# Altium integrated library Integrated_Library.IntLib: 177 symbols (part 1 of 2)
Pins are listed as number, name and electrical type; pins without a type are passive.

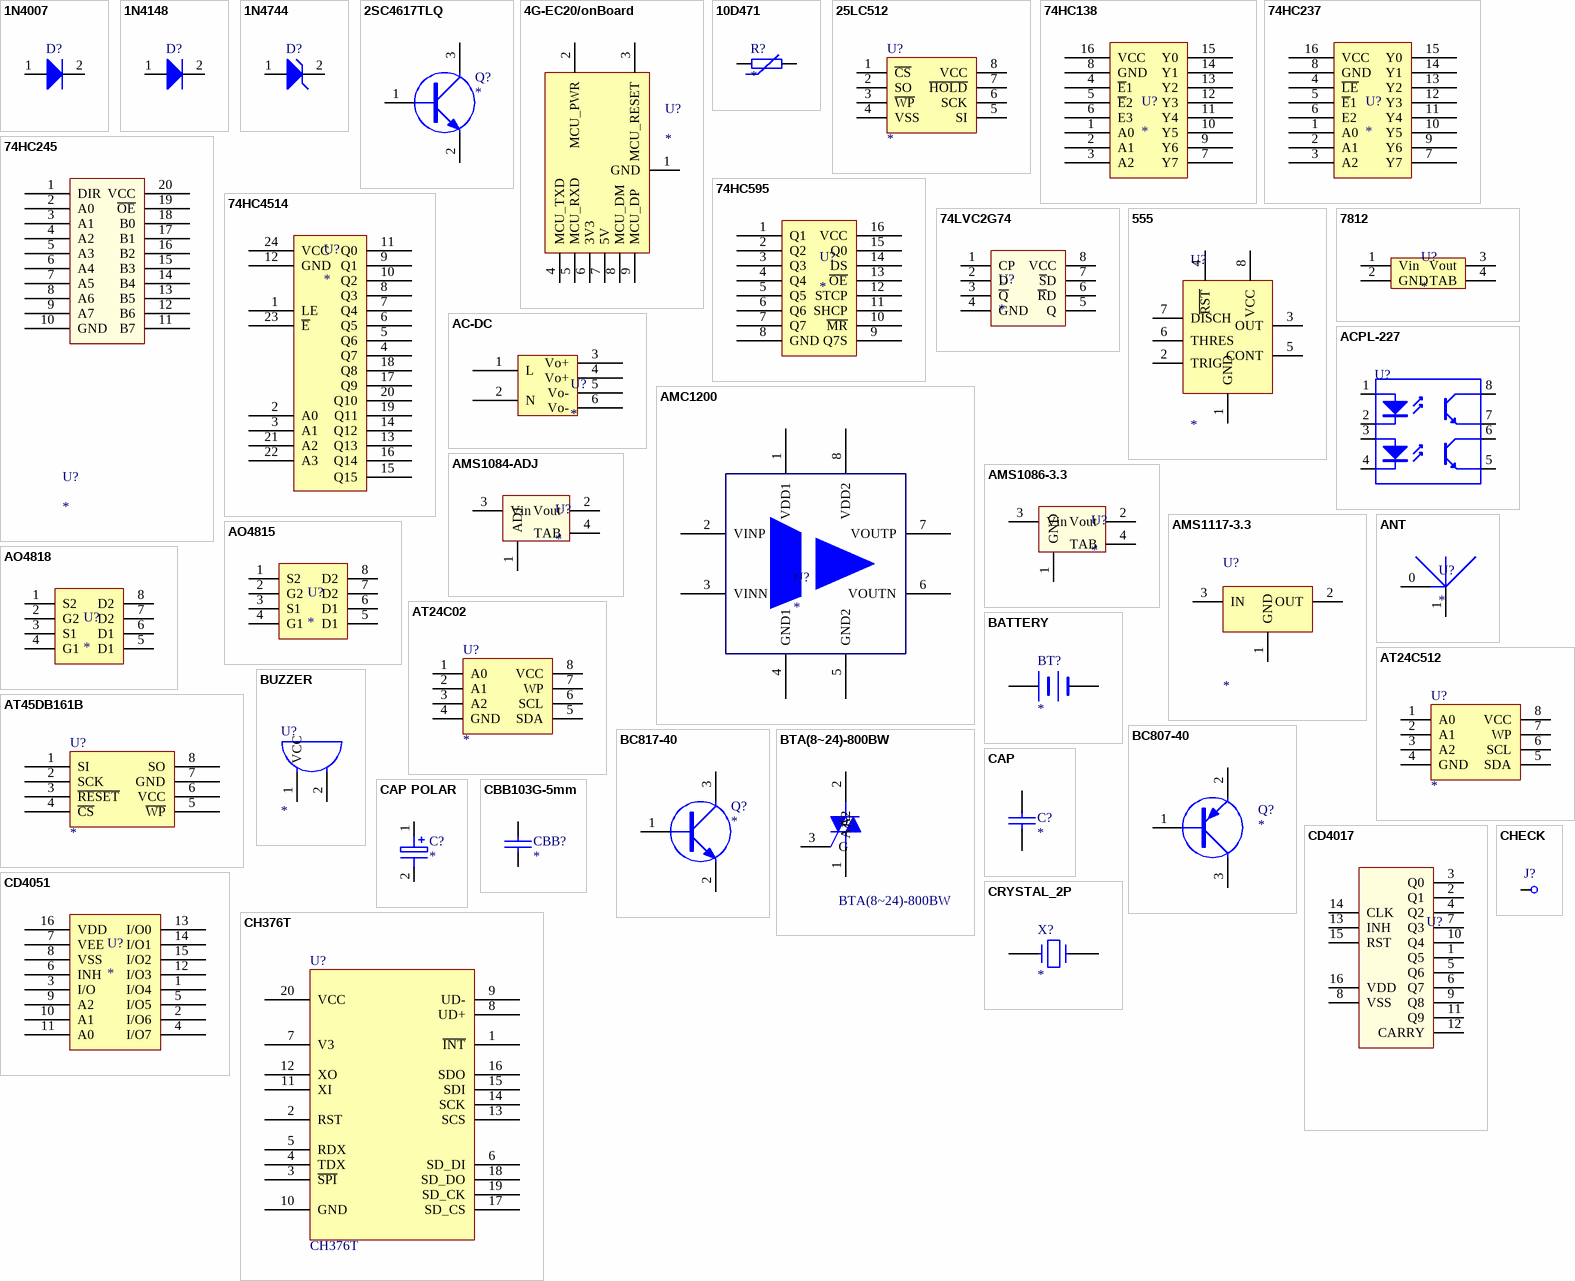
[diagram p0: symbols 1N4007 to CRYSTAL_2P]

## 1N4007
designator D?
整流二极管
footprint 10A10
footprint SMA/DO214AC (二极管)
footprint SMC/DO214AB
footprint SMB/DO214AA
pins: 1 A, 2 K

## 1N4148
designator D?
高速开关二极管
footprint LL34 (玻璃二极管封装)
footprint 1206_D (二极管)
footprint LL34_2P
footprint SOD-323_L1.8-W1.3-LS2.5-RD
footprint SOD-123_L2.8-W1.8-LS3.7-RD
footprint SOD-123FL
pins: 1 A, 2 K

## 1N4744
designator D?
15V/1W稳压二极管; Published: 8-Jun-2000; LatestRevisionDate: 17-Jul-2002; LatestRevisionNote: Re-released for DXP Platform.; PackageReference: DIODE-0.7; Publisher: Altium Limited
footprint LL41 (玻璃二极管封装)
footprint 1206_D (二极管)
footprint SMA/DO214AC (二极管)
footprint LL34_2P
pins: 1, 2 K

## 2SC4617TLQ
designator Q?
NPN三极管
footprint SOT-523
pins: 1, 2, 3

## 4G-EC20/onBoard
designator U?
移远板载4G
footprint 4G-EC20/onBoard
footprint 4g_ec20/onboard2 (插件弯头天线/micro sim翻盖式)
pins: 1 GND, 2 MCU_PWR, 3 MCU_RESET, 4 MCU_TXD, 5 MCU_RXD, 6 3V3, 7 5V, 8 MCU_DM, 9 MCU_DP

## 10D471
designator R?
压敏电阻
footprint VSR-10 (压敏电阻)
pins: 1, 2

## 25LC512
designator U?
EEPROM-512K-spi
footprint SO-8（1.27/3.8*5）
pins: 1 ~{CS}, 2 SO, 3 ~{WP}, 4 VSS, 5 SI, 6 SCK, 7 ~{HOLD}, 8 VCC

## 74HC138
designator U?
3-8译码器
footprint SO-16（1.27/3.8*10）
pins: 1 A0, 2 A1, 3 A2, 4 ~{E}1, 5 ~{E}2, 6 E3, 7 Y7, 8 GND, 9 Y6, 10 Y5, 11 Y4, 12 Y3, 13 Y2, 14 Y1, 15 Y0, 16 VCC

## 74HC237
designator U?
3-8译码器
footprint SO-16（1.27/3.8*10）
pins: 1 A0, 2 A1, 3 A2, 4 ~{LE}, 5 ~{E}1, 6 E2, 7 Y7, 8 GND, 9 Y6, 10 Y5, 11 Y4, 12 Y3, 13 Y2, 14 Y1, 15 Y0, 16 VCC

## 74HC245
designator U?
缓冲/驱动
footprint TSSOP-20（0.65/4.5*6.6）
pins: 1 DIR, 2 A0, 3 A1, 4 A2, 5 A3, 6 A4, 7 A5, 8 A6, 9 A7, 10 GND, 11 B7, 12 B6, 13 B5, 14 B4, 15 B3, 16 B2, 17 B1, 18 B0, 19 ~{OE}, 20 VCC

## 74HC595
designator U?
串入并出移位寄存器
footprint SO-16（1.27/3.8*10）
pins: 1 Q1, 2 Q2, 3 Q3, 4 Q4, 5 Q5, 6 Q6, 7 Q7, 8 GND, 9 Q7S, 10 ~{MR}, 11 SHCP, 12 STCP, 13 ~{OE}, 14 DS, 15 Q0, 16 VCC

## 74HC4514
designator U?
4-16线译码器
pins: 1 LE, 2 A0, 3 A1, 4 Q7, 5 Q6, 6 Q5, 7 Q4, 8 Q3, 9 Q1, 10 Q2, 11 Q0, 12 GND, 13 Q13, 14 Q12, 15 Q15, 16 Q14, 17 Q9, 18 Q8, 19 Q11, 20 Q10, 21 A2, 22 A3, 23 ~{E}, 24 VCC

## 74LVC2G74
designator U?
D触发器
footprint TSSOP-8（0.65/3*3）
pins: 1 CP, 2 D, 3 ~{Q}, 4 GND, 5 Q, 6 ~{R}D, 7 ~{S}D, 8 VCC

## 555
designator U?
时基芯片
footprint SO-8（1.27/3.8*5）
pins: 1 GND, 2 TRIG, 3 OUT, 4 ~{RST}, 5 CONT, 6 THRES, 7 DISCH, 8 VCC

## 7812
designator U?
线性稳压LDO
footprint TO-263-3
pins: 1 Vin, 2 GND, 3 Vout, 4 TAB

## AC-DC
designator U?
交流转直流
footprint AC-DC(HIECUBE)-12V/3A (AC/DC模块)
pins: 1 L, 2 N, 3 Vo+, 4 Vo+, 5 Vo-, 6 Vo-

## ACPL-227
designator U?
8脚光耦（2组); Published: 24-Mar-1999; LatestRevisionDate: 04-Mar-2005; LatestRevisionNote: Sch pins 3 & 4 Swapped.; DatasheetVersion: Nov-2003; PackageReference: DIP-4; Publisher: Altium Limited
footprint SO-8（1.27/3.8*5）
pins: 1 A "Anode", 2 K "Cathode", 3 A "Anode", 4 K "Cathode", 5 E "Emitter", 6 C "Collector", 7 E "Emitter", 8 C "Collector"

## AMC1200
designator U?
隔离放大器
footprint SOP(2.54)-8
pins: 1 VDD1, 2 VINP, 3 VINN, 4 GND1, 5 GND2, 6 VOUTN, 7 VOUTP, 8 VDD2

## AMS1084-ADJ
designator U?
LDO电压转换
footprint TO-252-3
pins: 1 ADJ, 2 Vout, 3 Vin, 4 TAB

## AMS1086-3.3
designator U?
LDO电压转换
footprint TO-252-3
pins: 1 GND, 2 Vout, 3 Vin, 4 TAB

## AMS1117-3.3
designator U?
LDO/3.3V/800mA
footprint SOT-223
footprint SOT-89_L4.5-W2.5-P1.50-LS4.2-BR
pins: 1 GND, 2 OUT, 3 IN

## ANT
designator U?
天线座
footprint SMA-KWE/弯头 (总长14.5mm/牙长8.5mm)
footprint SMA-KE/KHD偏脚-1.6mm (总长13.5mm/牙长8mm)
pins: 0, 1

## AO4815
designator U?
PMOS
footprint SO-8（1.27/3.8*5）
pins: 1 S2, 2 G2, 3 S1, 4 G1, 5 D1, 6 D1, 7 D2, 8 D2

## AO4818
designator U?
NMOS
footprint SO-8（1.27/3.8*5）
pins: 1 S2, 2 G2, 3 S1, 4 G1, 5 D1, 6 D1, 7 D2, 8 D2

## AT24C02
designator U?
EEPROM
footprint SO-8（1.27/3.8*5）
pins: 1 A0, 2 A1, 3 A2, 4 GND, 5 SDA, 6 SCL, 7 WP, 8 VCC

## AT24C512
designator U?
EEPROM-512K-3.3V
footprint SO-8（1.27/3.8*5）
pins: 1 A0, 2 A1, 3 A2, 4 GND, 5 SDA, 6 SCL, 7 WP, 8 VCC

## AT45DB161B
designator U?
SPI-FLASH
pins: 1 SI (oe), 2 SCK (oe), 3 ~{RESET} (oe), 4 ~{CS} (oe), 5 ~{WP} (oe), 6 VCC (oe), 7 GND (oe), 8 SO (oe)

## BATTERY
designator BT?
纽扣电池座
footprint CR1220 (电池座)
pins: 1 +, 2 -

## BC807-40
designator Q?
PNP三极管
footprint SOT-23-3
pins: 1, 2, 3

## BC817-40
designator Q?
NPN三极管; Ic: 0.5A; Vceo: 45V; Vcbo: 50V; Vebo: 5V; Pc: 0.3W
footprint SOT-23-3
pins: 1, 2, 3

## BTA(8~24)-800BW
designator Q?
三象限/绝缘型可控硅; Note: Pin 2 is electrically connected to Pin 4 (TAB); Published: 29-Sep-2000; LatestRevisionDate: 17-Jul-2002; LatestRevisionNote: Re-released for DXP Platform.; DatasheetVersion: 1999; PackageReference: 369-03; Publisher: Altium Limited; PackageDescription: TO, Thru-Hole, Vertical, Heatsink Mounted; 3 In-Line Leads; Pitch 2.28 mm; ComponentLink1Description: Manufacturer Link; ComponentLink1URL: http://www.motorola.com/
footprint TO-220AB 带散热片 (TO, Thru-Hole, Vertical, Heatsink Mounted; 3 In-Line Leads; Pitch 2.54 mm)
pins: 1 A1, 2 A2, 3 G

## BUZZER
designator U?
有源蜂鸣器
footprint BUZZ-12095/7.6mm (蜂鸣器)
footprint BUZZ-9055/5.0mm
pins: 1 VCC, 2 B

## CAP
designator C?
无极性电容
footprint 0805_C (电容)
footprint 0603_C (电容)
footprint 1206_C (电容)
footprint 0402_C
footprint X-CAP-L18.0-W5.0-P15.0-D11.0 (安规电容)
footprint Y-CAP-L10.0-W7.0-P7.50-D0.7 (安规电容)
pins: 1, 2
2 alternate drawings of the same symbol

## CAP POLAR
designator C?
极性电容
footprint CASE-A_3216
footprint CASE-B_3528
footprint CASE-C_6032
footprint CASE-D_7343
footprint CASE-E_7343
footprint CASE-V_7343
footprint CASE-V_7361
footprint EC-SMD-F16
footprint EC-SMD-F12.5
footprint EC-SMD-F10
footprint EC-SMD-F8
footprint EC-SMD-F6.3
footprint EC-SMD-F5
footprint EC-SMD-F4
footprint EC-SMD-F3
footprint EC-DIP_BD10.0-P5.00-D1.0-FD (直插电解电容)
footprint EC-DIP_BD8.0-P3.50-D1.0-FD (直插电解电容)
pins: 1, 2

## CBB103G-5mm
designator CBB?
聚丙烯电容
footprint RAD-0.2
footprint RAD-0.4
pins: 1, 2
2 alternate drawings of the same symbol

## CD4017
designator U?
10位计数器
footprint LC-SOIC-16_150mil
pins: 1 Q5, 2 Q1, 3 Q0, 4 Q2, 5 Q6, 6 Q7, 7 Q3, 8 VSS, 9 Q8, 10 Q4, 11 Q9, 12 CARRY, 13 INH, 14 CLK, 15 RST, 16 VDD

## CD4051
designator U?
8通道双向模拟开关
footprint SO-16（1.27/3.8*10）
pins: 1 I/O4, 2 I/O6, 3 I/O, 4 I/O7, 5 I/O5, 6 INH, 7 VEE, 8 VSS, 9 A2, 10 A1, 11 A0, 12 I/O3, 13 I/O0, 14 I/O1, 15 I/O2, 16 VDD

## CH376T
designator U?
USB芯片-SPI接口
footprint TSSOP-20_208MIL
pins: 1 ~{INT}, 2 RST, 3 ~{SPI}, 4 TDX, 5 RDX, 6 SD_DI, 7 V3, 8 UD+, 9 UD-, 10 GND, 11 XI, 12 XO, 13 SCS, 14 SCK, 15 SDI, 16 SDO, 17 SD_CS, 18 SD_DO, 19 SD_CK, 20 VCC

## CHECK
designator J?  (value not drawn)
测试点
footprint CHECK-A (Connector; Plug)
footprint CHECK-B (Connector; Plug)
pins: 1

## CRYSTAL_2P
designator X?
无源晶振2脚
footprint HC-49S (插针式)
footprint CSA-309
footprint DT-26
footprint SMD-3215-2P (贴片晶振)
footprint SMD-3225-2P (贴片晶振)
footprint SMD-5032_2P
pins: 1, 2

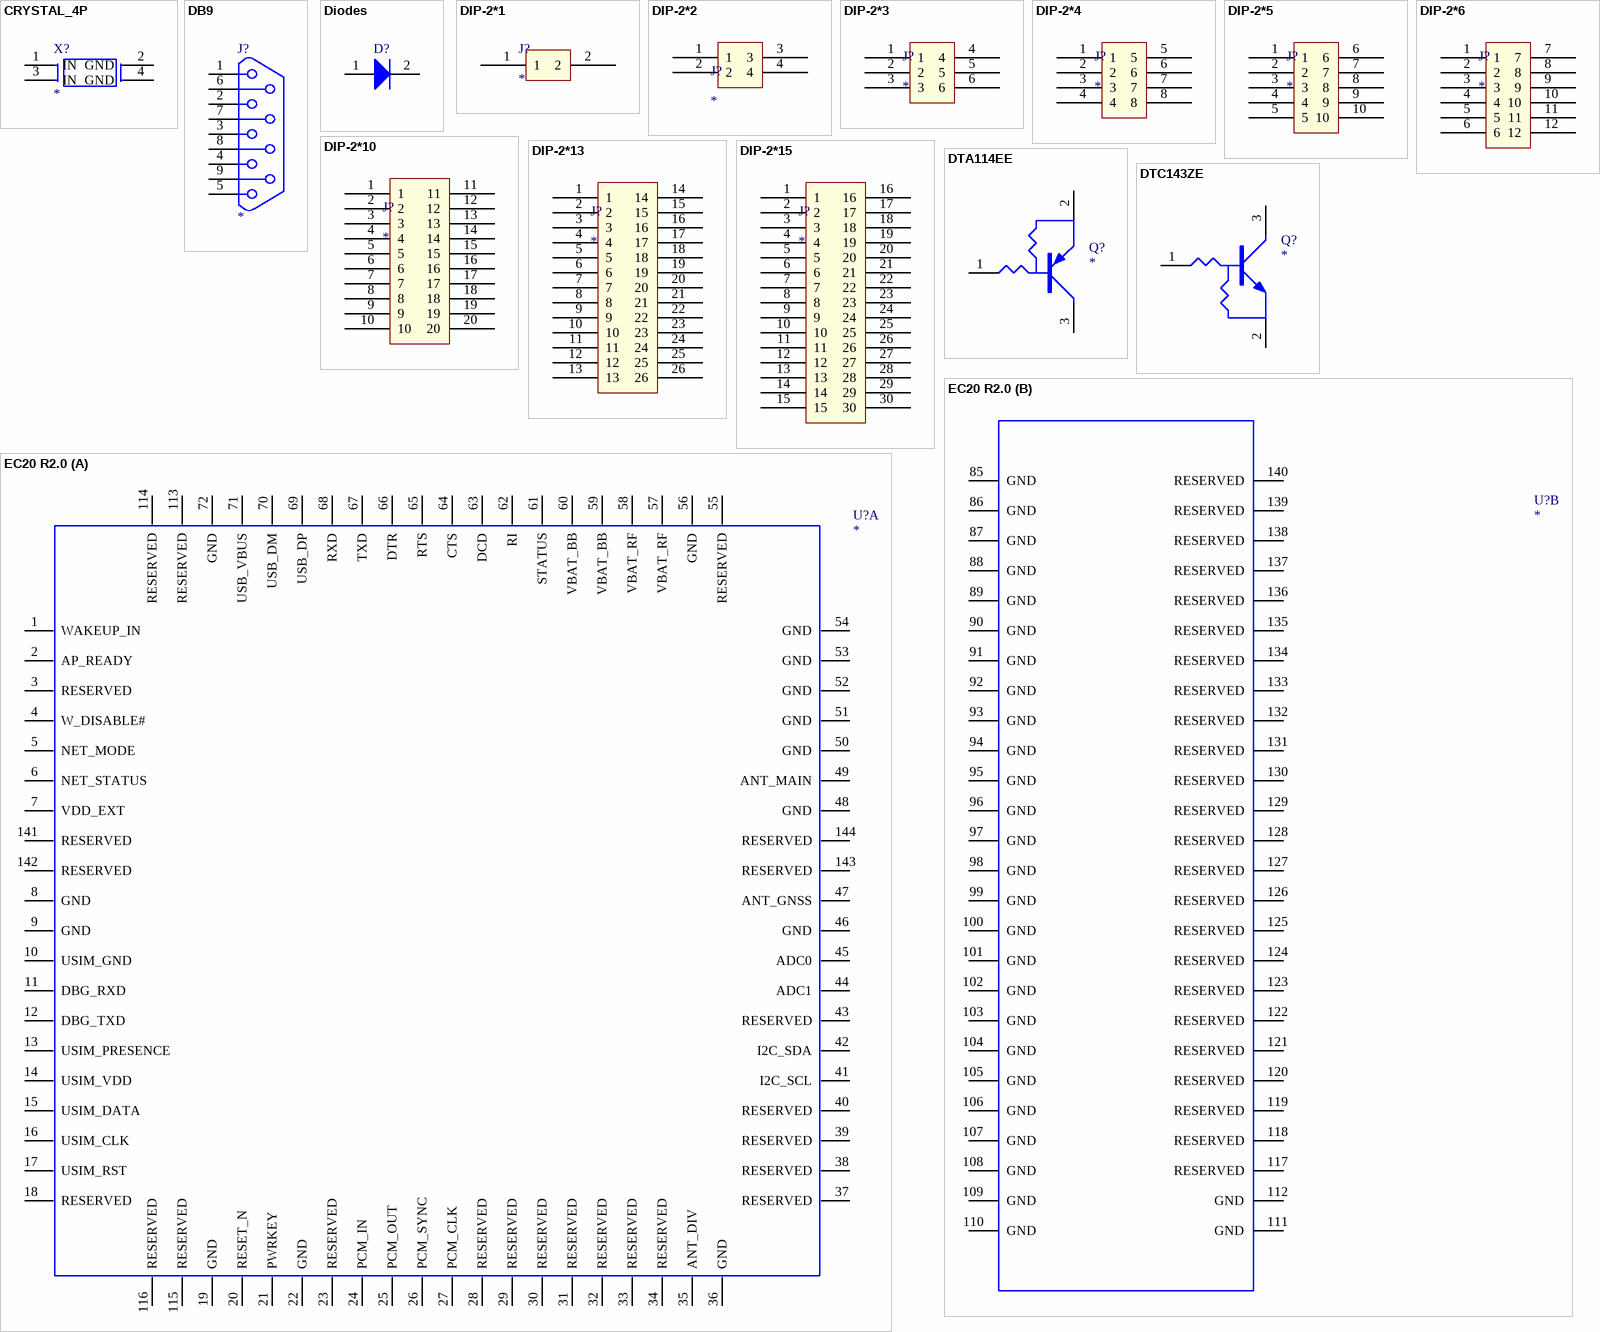
[diagram p1: symbols CRYSTAL_4P to EC20 R2.0]

## CRYSTAL_4P
designator X?
无源晶振4角
footprint SMD-3225_4P
footprint SMD-5032_4P
pins: 1 IN, 2 GND, 3 IN, 4 GND

## DB9
designator J?
9针串口
footprint DB9RA/F (DB9 插座)
pins: 1, 2, 3, 4, 5, 6, 7, 8, 9

## Diodes
designator D?
二极管
footprint SMA/DO214AC (二极管)
footprint LL34 (玻璃二极管封装)
footprint LL41 (玻璃二极管封装)
footprint 1206_D (二极管)
footprint LL34_2P
footprint SMB/DO214AA
footprint SMC/DO214AB
pins: 1 A, 2 K

## DIP-2*1
designator J?
双排2*1P插座
footprint 5557-2*1AW (弯针-引脚间距4.2mm)
footprint 5557-2*1A (直针-引脚间距4.2mm)
footprint 小5557-2*1AW (弯针-引脚间距3.0mm)
pins: 1, 2

## DIP-2*2
designator J?
双排2*2P插座
footprint 排针-2*2P/2.0mm (镀金)
footprint 排母-2*2P/2.0mm (镀金)
footprint 5557-2*2A (直针-引脚间距4.2mm)
footprint 5557-2*2AW (弯针-引脚间距4.2mm)
footprint 小5557-2*2AW (弯针-引脚间距3.0mm)
footprint PHB-2*2AW (弯针-引脚间距2.0mm)
pins: 1, 2, 3, 4

## DIP-2*3
designator J?
双排2*3P插座
footprint 5557-2*3A (直针-引脚间距4.2mm)
footprint 5557-2*3AW (弯针-引脚间距4.2mm)
footprint 小5557-2*3AW (弯针-引脚间距3.0mm)
footprint 小5557-2*3A (直针-引脚间距3.0mm)
footprint PHB-2*3A (直针-引脚间距2.0mm)
pins: 1, 2, 3, 4, 5, 6

## DIP-2*4
designator J?
双排2*4P插座
footprint 排母-2*4P/2.0mm (镀金)
footprint 排针-2*4P/2.0mm (镀金)
footprint PHD2.0-2*4P
footprint 5557-2*4A (直针-引脚间距4.2mm)
footprint 5557-2*4AW (弯针-引脚间距4.2mm)
footprint PHB-2*4AW (弯针-引脚间距2.0mm)
footprint 小5557-2*4A (直针-引脚间距3.0mm)
footprint 小5557-2*4AW (弯针-引脚间距3.0mm)
footprint PHB-2*4A (直针-引脚间距2.0mm)
pins: 1, 2, 3, 4, 5, 6, 7, 8

## DIP-2*5
designator J?
双排2*5P插座
footprint PHB-2*5A (直针-引脚间距2.0mm)
footprint IDE-2*5A (直针-引脚间距2.54mm)
footprint 5557-2*5AW (弯针-引脚间距4.2mm)
footprint 小5557-2*5AW (弯针-引脚间距3.0mm)
footprint 小5557-2*5A (直针-引脚间距3.0mm)
footprint 5557-2*5A (直针-引脚间距4.2mm)
pins: 1, 2, 3, 4, 5, 6, 7, 8, 9, 10

## DIP-2*6
designator J?
双排2*6P插座
footprint PHB-2*6A (直针-引脚间距2.0mm)
footprint 5557-2*6A (直针-引脚间距4.2mm)
footprint 小5557-2*6A (直针-引脚间距3.0mm)
footprint 小5557-2*6AW (弯针-引脚间距3.0mm)
pins: 1, 2, 3, 4, 5, 6, 7, 8, 9, 10, 11, 12

## DIP-2*10
designator J?
双排2*10P插座
footprint 5557-2*10A (直针-引脚间距4.2mm)
footprint 5557-2*10AW (弯针-引脚间距4.2mm)
footprint PHB-2*10AW (弯针-引脚间距2.0mm)
footprint PHB-2*10A (直针-引脚间距2.0mm)
footprint 小5557-2*10AW (弯针-引脚间距3.0mm)
footprint IDE-2*10A (直针-引脚间距2.54mm)
pins: 1, 2, 3, 4, 5, 6, 7, 8, 9, 10, 11, 12, 13, 14, 15, 16, 17, 18, 19, 20

## DIP-2*13
designator J?
双排2*13P插座
footprint PHB-2*13A (直针-引脚间距2.0mm)
pins: 1, 2, 3, 4, 5, 6, 7, 8, 9, 10, 11, 12, 13, 14, 15, 16, 17, 18, 19, 20, 21, 22, 23, 24, 25, 26

## DIP-2*15
designator J?
双排2*15P插座
footprint IDE-2*15A (直针-引脚间距2.54mm)
pins: 1, 2, 3, 4, 5, 6, 7, 8, 9, 10, 11, 12, 13, 14, 15, 16, 17, 18, 19, 20, 21, 22, 23, 24, 25, 26, 27, 28, 29, 30

## DTA114EE
designator Q?
PNP数字三极管
footprint SOT-23-3
footprint SOT-523
pins: 1, 2, 3

## DTC143ZE
designator Q?
NPN数字三极管
footprint SOT-523
pins: 1, 2, 3

## EC20 R2.0
designator U?
移远通信4G; Value: *; Part Description: *; PCB DECAL: *
footprint EC20_R2.0 (移远通信4G模块)
part A pins: 1 WAKEUP_IN, 2 AP_READY, 3 RESERVED, 4 W_DISABLE#, 5 NET_MODE, 6 NET_STATUS, 7 VDD_EXT, 8 GND, 9 GND, 10 USIM_GND, 11 DBG_RXD, 12 DBG_TXD, 13 USIM_PRESENCE, 14 USIM_VDD, 15 USIM_DATA, 16 USIM_CLK, 17 USIM_RST, 18 RESERVED, 19 GND, 20 RESET_N, 21 PWRKEY, 22 GND, 23 RESERVED, 24 PCM_IN, 25 PCM_OUT, 26 PCM_SYNC, 27 PCM_CLK, 28 RESERVED, 29 RESERVED, 30 RESERVED, 31 RESERVED, 32 RESERVED, 33 RESERVED, 34 RESERVED, 35 ANT_DIV, 36 GND, 37 RESERVED, 38 RESERVED, 39 RESERVED, 40 RESERVED, 41 I2C_SCL, 42 I2C_SDA, 43 RESERVED, 44 ADC1, 45 ADC0, 46 GND, 47 ANT_GNSS, 48 GND, 49 ANT_MAIN, 50 GND, 51 GND, 52 GND, 53 GND, 54 GND, 55 RESERVED, 56 GND, 57 VBAT_RF, 58 VBAT_RF, 59 VBAT_BB, 60 VBAT_BB, 61 STATUS, 62 RI, 63 DCD, 64 CTS, 65 RTS, 66 DTR, 67 TXD, 68 RXD, 69 USB_DP, 70 USB_DM, 71 USB_VBUS, 72 GND, 113 RESERVED, 114 RESERVED, 115 RESERVED, 116 RESERVED, 141 RESERVED, 142 RESERVED, 143 RESERVED, 144 RESERVED
part B pins: 85 GND, 86 GND, 87 GND, 88 GND, 89 GND, 90 GND, 91 GND, 92 GND, 93 GND, 94 GND, 95 GND, 96 GND, 97 GND, 98 GND, 99 GND, 100 GND, 101 GND, 102 GND, 103 GND, 104 GND, 105 GND, 106 GND, 107 GND, 108 GND, 109 GND, 110 GND, 111 GND, 112 GND, 117 RESERVED, 118 RESERVED, 119 RESERVED, 120 RESERVED, 121 RESERVED, 122 RESERVED, 123 RESERVED, 124 RESERVED, 125 RESERVED, 126 RESERVED, 127 RESERVED, 128 RESERVED, 129 RESERVED, 130 RESERVED, 131 RESERVED, 132 RESERVED, 133 RESERVED, 134 RESERVED, 135 RESERVED, 136 RESERVED, 137 RESERVED, 138 RESERVED, 139 RESERVED, 140 RESERVED
2 alternate drawings of the same symbol

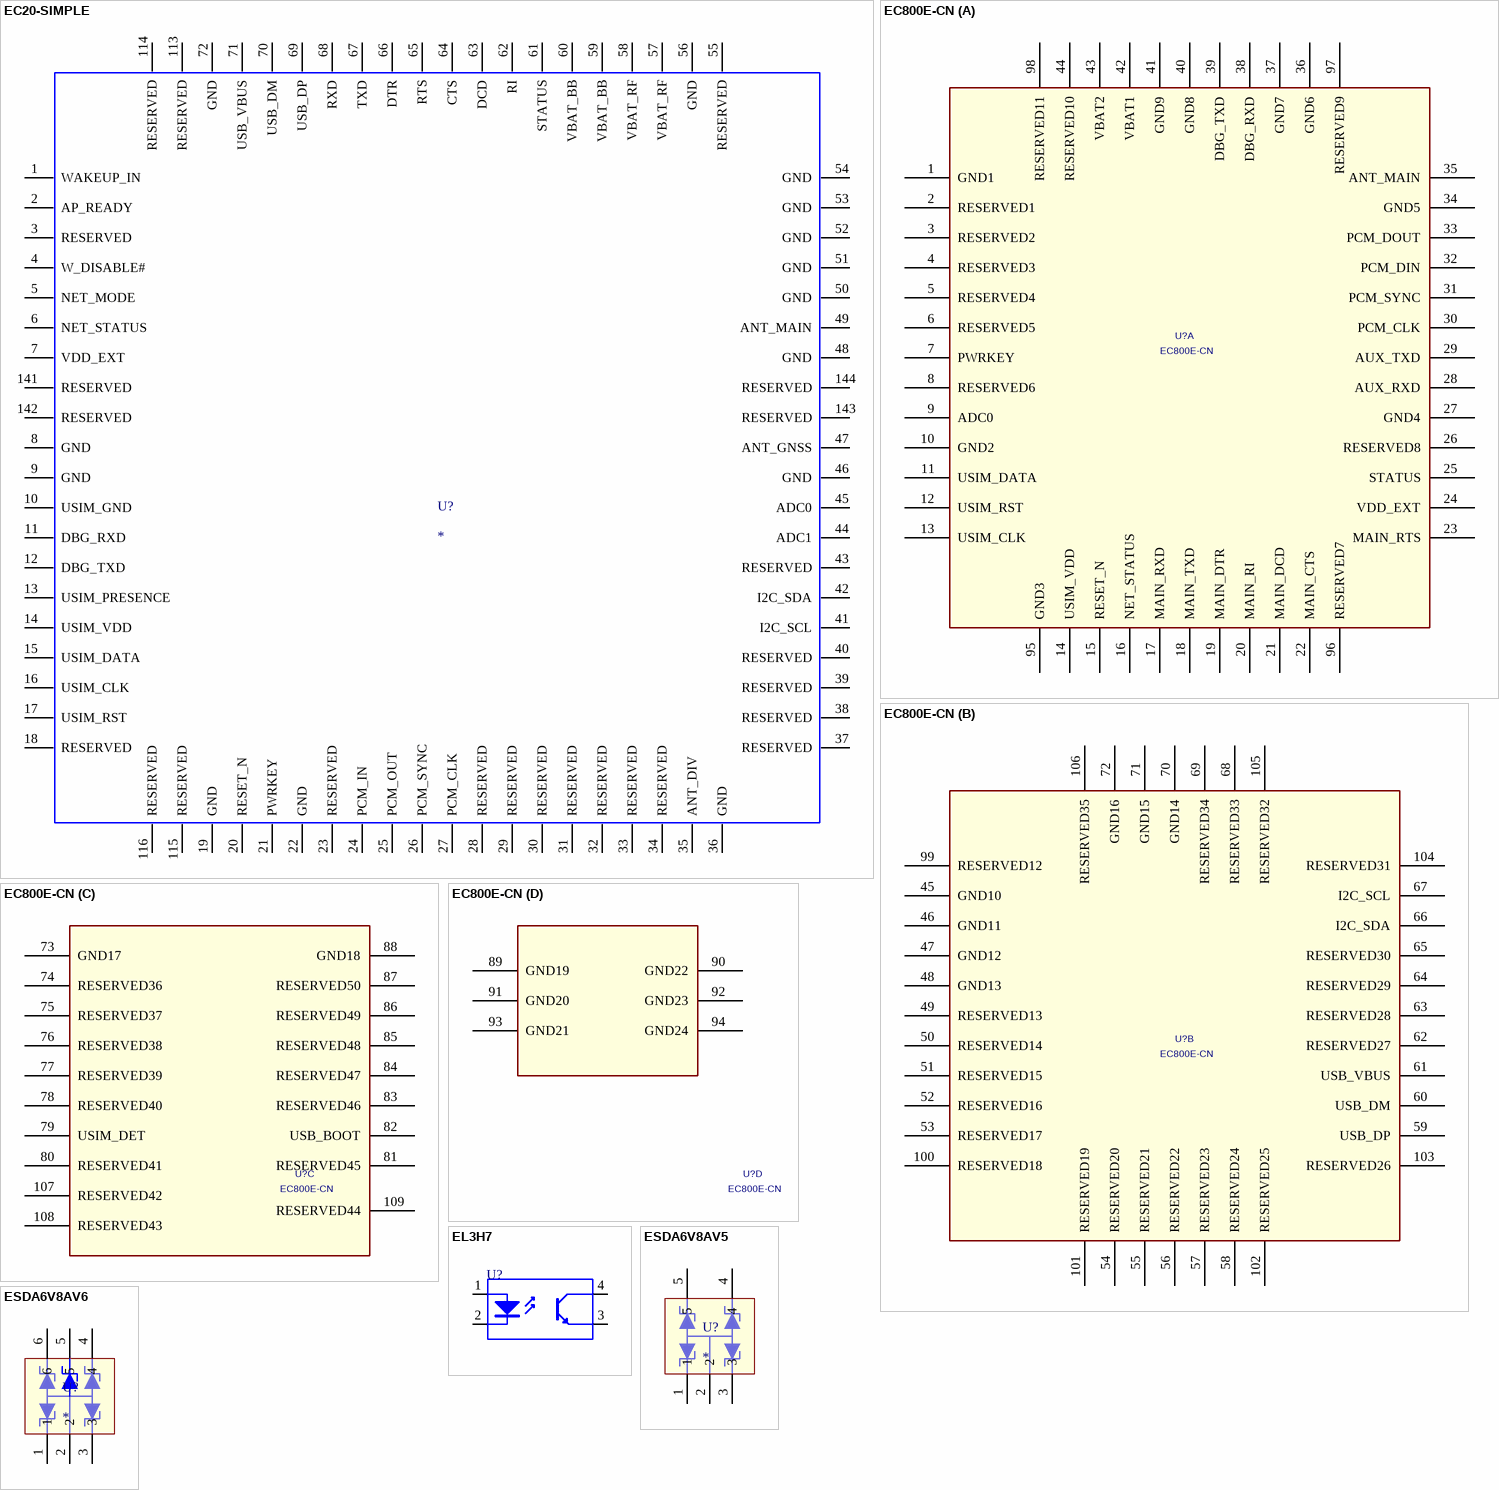
[diagram p2: symbols EC20-SIMPLE to ESDA6V8AV6]

## EC20-SIMPLE
designator U?
EC20去掉底部焊盘
footprint EC20_R2.0 - SIMPLE (移远通信4G模块)
pins: 1 WAKEUP_IN, 2 AP_READY, 3 RESERVED, 4 W_DISABLE#, 5 NET_MODE, 6 NET_STATUS, 7 VDD_EXT, 8 GND, 9 GND, 10 USIM_GND, 11 DBG_RXD, 12 DBG_TXD, 13 USIM_PRESENCE, 14 USIM_VDD, 15 USIM_DATA, 16 USIM_CLK, 17 USIM_RST, 18 RESERVED, 19 GND, 20 RESET_N, 21 PWRKEY, 22 GND, 23 RESERVED, 24 PCM_IN, 25 PCM_OUT, 26 PCM_SYNC, 27 PCM_CLK, 28 RESERVED, 29 RESERVED, 30 RESERVED, 31 RESERVED, 32 RESERVED, 33 RESERVED, 34 RESERVED, 35 ANT_DIV, 36 GND, 37 RESERVED, 38 RESERVED, 39 RESERVED, 40 RESERVED, 41 I2C_SCL, 42 I2C_SDA, 43 RESERVED, 44 ADC1, 45 ADC0, 46 GND, 47 ANT_GNSS, 48 GND, 49 ANT_MAIN, 50 GND, 51 GND, 52 GND, 53 GND, 54 GND, 55 RESERVED, 56 GND, 57 VBAT_RF, 58 VBAT_RF, 59 VBAT_BB, 60 VBAT_BB, 61 STATUS, 62 RI, 63 DCD, 64 CTS, 65 RTS, 66 DTR, 67 TXD, 68 RXD, 69 USB_DP, 70 USB_DM, 71 USB_VBUS, 72 GND, 113 RESERVED, 114 RESERVED, 115 RESERVED, 116 RESERVED, 141 RESERVED, 142 RESERVED, 143 RESERVED, 144 RESERVED

## EC800E-CN
designator U?
EC800E-CN Module 109PIN 15.8x17.7mm H2.4mm RO; Manufacturer: Quectel; Geometry.Height: 2.4mm; Part Description: EC800E-CN Module 109PIN 15.8x17.7mm H2.4mm RO; Value: EC800E-CN
footprint EC800E-CN
part A pins: 1 GND1, 2 RESERVED1, 3 RESERVED2, 4 RESERVED3, 5 RESERVED4, 6 RESERVED5, 7 PWRKEY, 8 RESERVED6, 9 ADC0, 10 GND2, 11 USIM_DATA, 12 USIM_RST, 13 USIM_CLK, 14 USIM_VDD, 15 RESET_N, 16 NET_STATUS, 17 MAIN_RXD, 18 MAIN_TXD, 19 MAIN_DTR, 20 MAIN_RI, 21 MAIN_DCD, 22 MAIN_CTS, 23 MAIN_RTS, 24 VDD_EXT, 25 STATUS, 26 RESERVED8, 27 GND4, 28 AUX_RXD, 29 AUX_TXD, 30 PCM_CLK, 31 PCM_SYNC, 32 PCM_DIN, 33 PCM_DOUT, 34 GND5, 35 ANT_MAIN, 36 GND6, 37 GND7, 38 DBG_RXD, 39 DBG_TXD, 40 GND8, 41 GND9, 42 VBAT1, 43 VBAT2, 44 RESERVED10, 95 GND3, 96 RESERVED7, 97 RESERVED9, 98 RESERVED11
part B pins: 45 GND10, 46 GND11, 47 GND12, 48 GND13, 49 RESERVED13, 50 RESERVED14, 51 RESERVED15, 52 RESERVED16, 53 RESERVED17, 54 RESERVED20, 55 RESERVED21, 56 RESERVED22, 57 RESERVED23, 58 RESERVED24, 59 USB_DP, 60 USB_DM, 61 USB_VBUS, 62 RESERVED27, 63 RESERVED28, 64 RESERVED29, 65 RESERVED30, 66 I2C_SDA, 67 I2C_SCL, 68 RESERVED33, 69 RESERVED34, 70 GND14, 71 GND15, 72 GND16, 99 RESERVED12, 100 RESERVED18, 101 RESERVED19, 102 RESERVED25, 103 RESERVED26, 104 RESERVED31, 105 RESERVED32, 106 RESERVED35
part C pins: 73 GND17, 74 RESERVED36, 75 RESERVED37, 76 RESERVED38, 77 RESERVED39, 78 RESERVED40, 79 USIM_DET, 80 RESERVED41, 81 RESERVED45, 82 USB_BOOT, 83 RESERVED46, 84 RESERVED47, 85 RESERVED48, 86 RESERVED49, 87 RESERVED50, 88 GND18, 107 RESERVED42, 108 RESERVED43, 109 RESERVED44
part D pins: 89 GND19, 90 GND22, 91 GND20, 92 GND23, 93 GND21, 94 GND24

## EL3H7
designator U?
4引脚线性光耦; Published: 24-Mar-1999; LatestRevisionDate: 04-Mar-2005; LatestRevisionNote: Sch pins 3 & 4 Swapped.; DatasheetVersion: Nov-2003; PackageReference: DIP-4; Publisher: Altium Limited
footprint SOP-4_P1.27 (Footprint not found)
pins: 1 A "Anode", 2 K "Cathode", 3 E "Emitter", 4 C "Collector"

## ESDA6V8AV5
designator U?
TVS管（4只集成）
footprint SOT-553
pins: 1, 2, 3, 4, 5

## ESDA6V8AV6
designator U?
TVS管（5只集成）
footprint SOT-563
pins: 1, 2, 3, 4, 5, 6

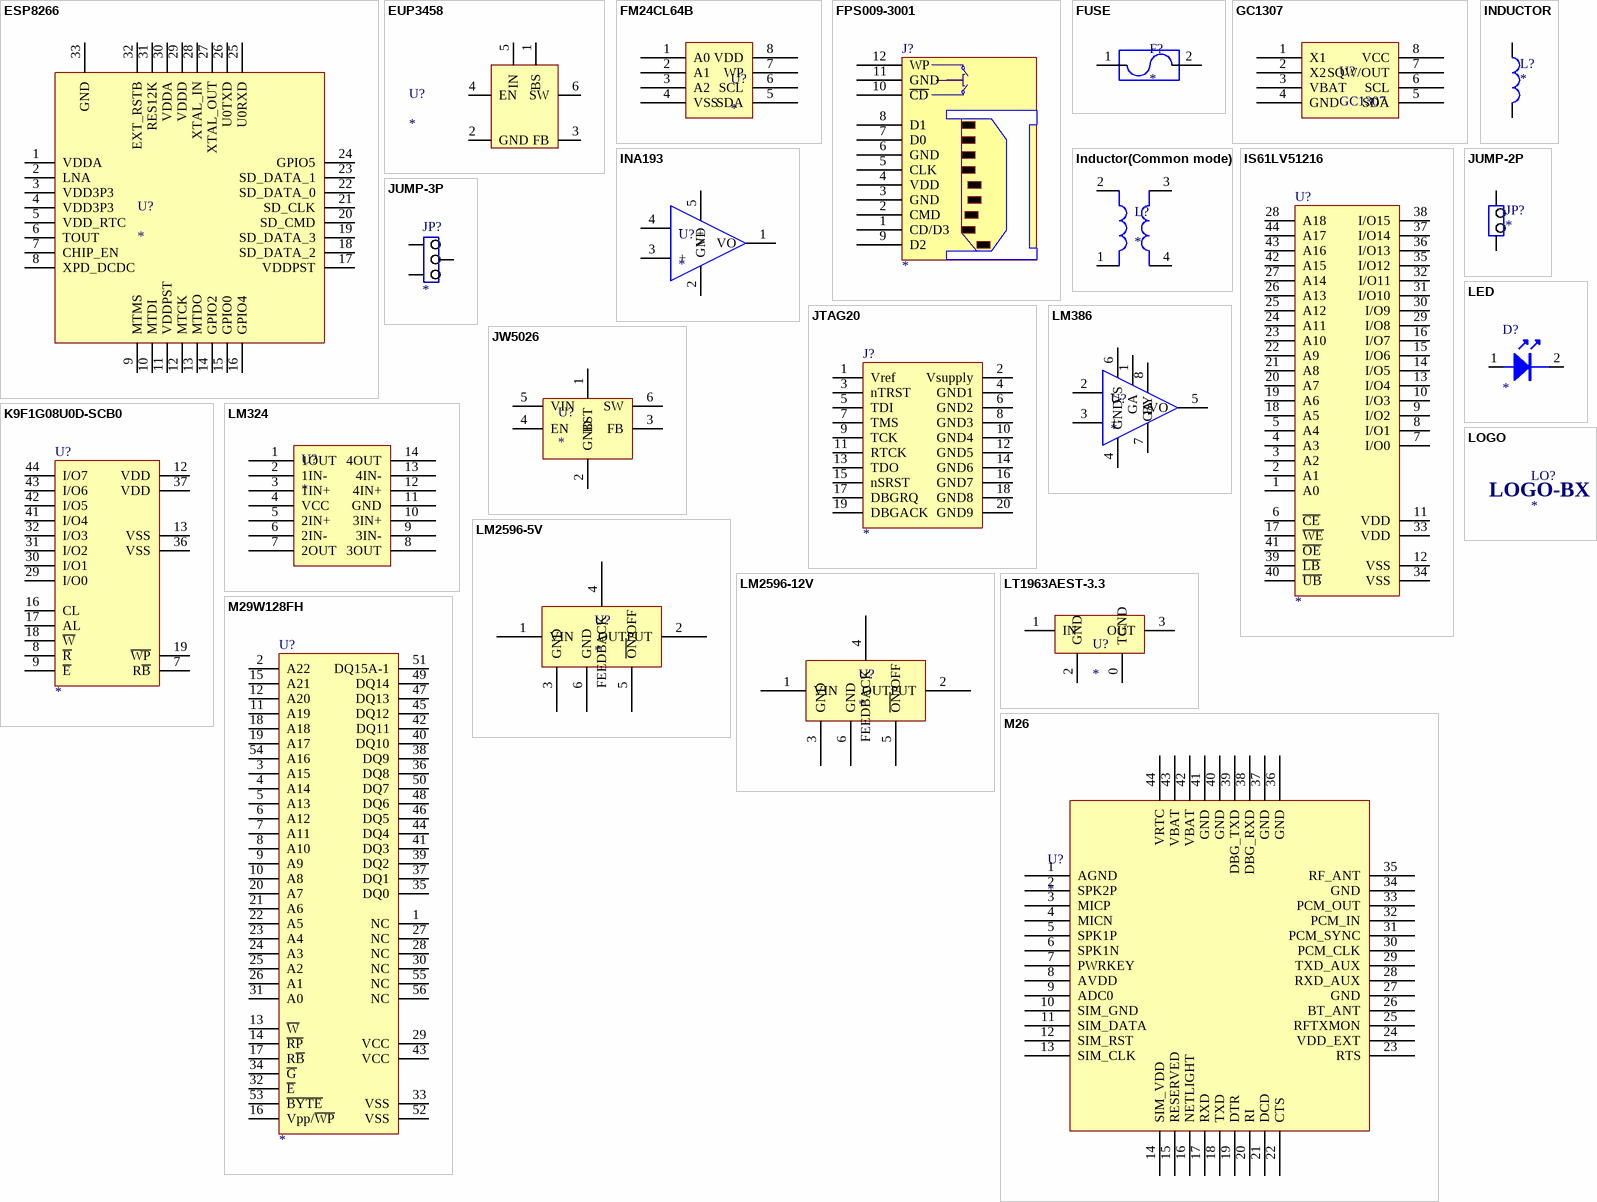
[diagram p3: symbols ESP8266 to M29W128FH]

## ESP8266
designator U?
WIFI
footprint QFN-32
pins: 1 VDDA, 2 LNA, 3 VDD3P3, 4 VDD3P3, 5 VDD_RTC, 6 TOUT, 7 CHIP_EN, 8 XPD_DCDC, 9 MTMS, 10 MTDI, 11 VDDPST, 12 MTCK, 13 MTDO, 14 GPIO2, 15 GPIO0, 16 GPIO4, 17 VDDPST, 18 SD_DATA_2, 19 SD_DATA_3, 20 SD_CMD, 21 SD_CLK, 22 SD_DATA_0, 23 SD_DATA_1, 24 GPIO5, 25 U0RXD, 26 U0TXD, 27 XTAL_OUT, 28 XTAL_IN, 29 VDDD, 30 VDDA, 31 RES12K, 32 EXT_RSTB, 33 GND

## EUP3458
designator U?
DC-DC
footprint SOT-23-6
pins: 1 BS, 2 GND, 3 FB, 4 EN, 5 IN, 6 SW

## FM24CL64B
designator U?
CYPRESS-64Kbit
footprint SO-8（1.27/3.8*5）
pins: 1 A0, 2 A1, 3 A2, 4 VSS, 5 SDA, 6 SCL, 7 WP, 8 VDD

## FPS009-3001
designator J?
有保护电路SIM卡座; Text Field1: YAMAICHI; Text Field2: 8,50 FARNELL 429-7570; ATTRIBUTE: *; POPULATE: *; BUDGET CALC: *; DISTRIBUTOR: *; TYP: *; Comment_1: *
footprint SDC009-01-R2
pins: 1 CD/D3, 2 CMD, 3 GND, 4 VDD, 5 CLK, 6 GND, 7 D0, 8 D1, 9 D2, 10 ~{CD}, 11 GND, 12 WP

## FUSE
designator F?
保险丝
footprint FUSE-DIP_L9.0-W2.5-D5.08 (直插保险丝)
footprint FUSE-DIP_L24.1-W3.0-P10.20-D1.2-S2.0 (自恢复保险)
footprint FUSE-SMD-1812 (保险丝)
pins: 1, 2

## GC1307
designator U?
RTC 芯片
footprint SO-8（1.27/3.8*5）
pins: 1 X1, 2 X2, 3 VBAT, 4 GND, 5 SDA, 6 SCL, 7 SQW/OUT, 8 VCC

## INA193
designator U?
运放(20倍增益)
footprint SOT-23-5
pins: 1 VO, 2 GND, 3 +, 4 -, 5 V+

## INDUCTOR
designator L?
电感
footprint 0805_L (电感)
footprint 0603_R (电阻)
footprint 工字电感（直径9.5）
footprint 0402_L
footprint 0603_L (电感)
footprint 1210_L
footprint IND-SMD_1040 (一体成型电感)
footprint IND-SMD_0630
footprint RH127-SMD (RH电感)
footprint RH105-SMD (RH电感)
footprint RH73-SMD (RH电感)
footprint RH63-SMD (RH电感)
footprint L2520 (贴片电感)
footprint IND-SMD_L6.6-W6.6
footprint IND-SMD_L13.5-W12.8_TMPC1265HP
footprint IND-SMD_L4.4-W4.2
pins: 1, 2

## Inductor(Common mode)
designator L?
共模电感
footprint FILTER-TH_4P-L17.0-W12.0-P7.00-D0.6-S8.00
pins: 1, 2, 3, 4

## IS61LV51216
designator U?
SRAM内存
footprint TSOP-44
pins: 1 A0, 2 A1, 3 A2, 4 A3, 5 A4, 6 ~{CE}, 7 I/O0, 8 I/O1, 9 I/O2, 10 I/O3, 11 VDD, 12 VSS, 13 I/O4, 14 I/O5, 15 I/O6, 16 I/O7, 17 ~{WE}, 18 A5, 19 A6, 20 A7, 21 A8, 22 A9, 23 A10, 24 A11, 25 A12, 26 A13, 27 A14, 28 A18, 29 I/O8, 30 I/O9, 31 I/O10, 32 I/O11, 33 VDD, 34 VSS, 35 I/O12, 36 I/O13, 37 I/O14, 38 I/O15, 39 ~{LB}, 40 ~{UB}, 41 ~{OE}, 42 A15, 43 A16, 44 A17

## JTAG20
designator J?
2*10P牛角座-2.54mm
footprint DC3-2.54-20P (JTAG 简易牛角直插插座)
pins: 1 Vref, 2 Vsupply, 3 nTRST, 4 GND1, 5 TDI, 6 GND2, 7 TMS, 8 GND3, 9 TCK, 10 GND4, 11 RTCK, 12 GND5, 13 TDO, 14 GND6, 15 nSRST, 16 GND7, 17 DBGRQ, 18 GND8, 19 DBGACK, 20 GND9

## JUMP-2P
designator JP?
两针插座
footprint JUMP-2P
pins: 1, 2

## JUMP-3P
designator JP?
三针插座
footprint JUMP-3P（0805）
footprint 排针（跳线）-1*3P/2.0mm (跳线排针)
footprint JUMP-3P（间距2.54）
footprint JUMP-3P / 0603 (电阻)
pins: 1, 2, 3

## JW5026
designator U?
DC-DC/1A
footprint SOT-23-6
pins: 1 BST, 2 GND, 3 FB, 4 EN, 5 VIN, 6 SW

## K9F1G08U0D-SCB0
designator U?
NAND FLASH-128M
footprint TSOP-48
pins: 7 R~{B}, 8 ~{R}, 9 ~{E}, 12 VDD, 13 VSS, 16 CL, 17 AL, 18 ~{W}, 19 ~{WP}, 29 I/O0, 30 I/O1, 31 I/O2, 32 I/O3, 36 VSS, 37 VDD, 41 I/O4, 42 I/O5, 43 I/O6, 44 I/O7

## LED
designator D?
发光二极管
footprint 0805_D
footprint 0603_D (贴片发光二极管)
footprint LED(圆形)-2.54-3mm (直插LED或红外接收管)
footprint LED(圆形)-2.54-5mm (直插LED或红外接收管)
footprint 0402_D
footprint LED(方形)-2*3*5 (插件二极管)
footprint LED-2.54-5MM (直插LED或红外接收管)
pins: 1, 2

## LM324
designator U?
运算放大器（4路）
footprint SO-14（1.27/3.8*9）
pins: 1 1OUT, 2 1IN-, 3 1IN+, 4 VCC, 5 2IN+, 6 2IN-, 7 2OUT, 8 3OUT, 9 3IN-, 10 3IN+, 11 GND, 12 4IN+, 13 4IN-, 14 4OUT

## LM386
designator U?
音频放大器
footprint SO-8（1.27/3.8*5）
pins: 1 GA, 2 -, 3 +, 4 GND, 5 VO, 6 VS, 7 BY, 8 GA

## LM2596-5V
designator U?
DC-DC
footprint TO-263-5 (贴片LM2596)
pins: 1 VIN, 2 OUTPUT, 3 GND, 4 FEEDBACK, 5 ~{ON}/OFF, 6 GND

## LM2596-12V
designator U?
DC-DC
footprint TO-263-5 (贴片LM2596)
pins: 1 VIN, 2 OUTPUT, 3 GND, 4 FEEDBACK, 5 ~{ON}/OFF, 6 GND

## LOGO
designator LO?
百兴Logo
footprint LOGO-BX-SMALL
footprint LOGO-BX-BIG
footprint LOGO-BX-MID
footprint THAND
text: LOGO-BX

## LT1963AEST-3.3
designator U?
LDO/3.3V/1.5A
footprint SOT-223
pins: 0 TGND, 1 IN, 2 GND, 3 OUT

## M26
designator U?
移远2G芯片
footprint M26
pins: 1 AGND, 2 SPK2P, 3 MICP, 4 MICN, 5 SPK1P, 6 SPK1N, 7 PWRKEY, 8 AVDD, 9 ADC0, 10 SIM_GND, 11 SIM_DATA, 12 SIM_RST, 13 SIM_CLK, 14 SIM_VDD, 15 RESERVED, 16 NETLIGHT, 17 RXD, 18 TXD, 19 DTR, 20 RI, 21 DCD, 22 CTS, 23 RTS, 24 VDD_EXT, 25 RFTXMON, 26 BT_ANT, 27 GND, 28 RXD_AUX, 29 TXD_AUX, 30 PCM_CLK, 31 PCM_SYNC, 32 PCM_IN, 33 PCM_OUT, 34 GND, 35 RF_ANT, 36 GND, 37 GND, 38 DBG_RXD, 39 DBG_TXD, 40 GND, 41 GND, 42 VBAT, 43 VBAT, 44 VRTC

## M29W128FH
designator U?
pins: 1 NC, 2 A22, 3 A15, 4 A14, 5 A13, 6 A12, 7 A11, 8 A10, 9 A9, 10 A8, 11 A19, 12 A20, 13 ~{W}, 14 ~{RP}, 15 A21, 16 Vpp/~{WP}, 17 R~{B}, 18 A18, 19 A17, 20 A7, 21 A6, 22 A5, 23 A4, 24 A3, 25 A2, 26 A1, 27 NC, 28 NC, 29 VCC, 30 NC, 31 A0, 32 ~{E}, 33 VSS, 34 ~{G}, 35 DQ0, 36 DQ8, 37 DQ1, 38 DQ9, 39 DQ2, 40 DQ10, 41 DQ3, 42 DQ11, 43 VCC, 44 DQ4, 45 DQ12, 46 DQ5, 47 DQ13, 48 DQ6, 49 DQ14, 50 DQ7, 51 DQ15A-1, 52 VSS, 53 ~{BYTE}, 54 A16, 55 NC, 56 NC

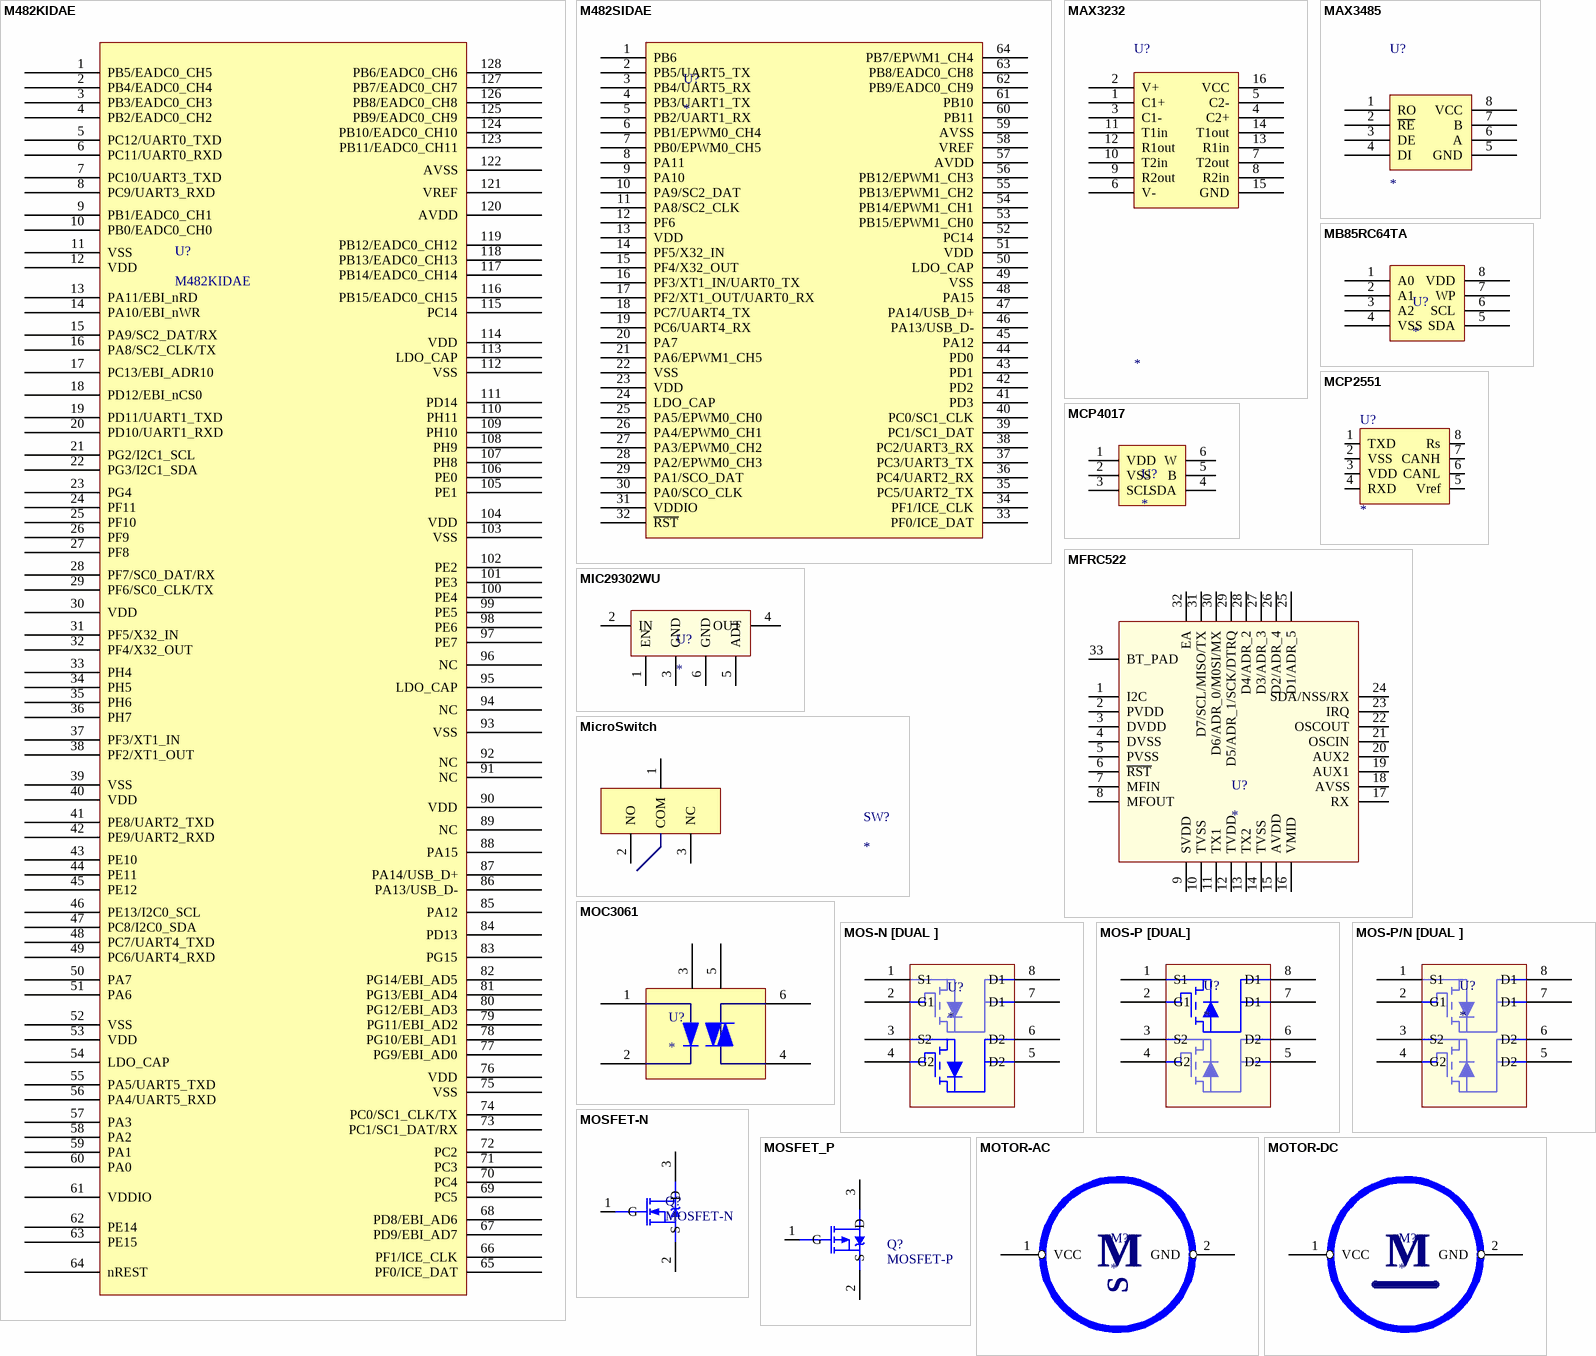
[diagram p4: symbols M482KIDAE to MOTOR-DC]

## M482KIDAE
designator U?
新唐 M482KIDAE
footprint LQFP-128_L14.0-W14.0-P0.40-LS16.0-BL
pins: 1 PB5/EADC0_CH5, 2 PB4/EADC0_CH4, 3 PB3/EADC0_CH3, 4 PB2/EADC0_CH2, 5 PC12/UART0_TXD, 6 PC11/UART0_RXD, 7 PC10/UART3_TXD, 8 PC9/UART3_RXD, 9 PB1/EADC0_CH1, 10 PB0/EADC0_CH0, 11 VSS, 12 VDD, 13 PA11/EBI_nRD, 14 PA10/EBI_nWR, 15 PA9/SC2_DAT/RX, 16 PA8/SC2_CLK/TX, 17 PC13/EBI_ADR10, 18 PD12/EBI_nCS0, 19 PD11/UART1_TXD, 20 PD10/UART1_RXD, 21 PG2/I2C1_SCL, 22 PG3/I2C1_SDA, 23 PG4, 24 PF11, 25 PF10, 26 PF9, 27 PF8, 28 PF7/SC0_DAT/RX, 29 PF6/SC0_CLK/TX, 30 VDD, 31 PF5/X32_IN, 32 PF4/X32_OUT, 33 PH4, 34 PH5, 35 PH6, 36 PH7, 37 PF3/XT1_IN, 38 PF2/XT1_OUT, 39 VSS, 40 VDD, 41 PE8/UART2_TXD, 42 PE9/UART2_RXD, 43 PE10, 44 PE11, 45 PE12, 46 PE13/I2C0_SCL, 47 PC8/I2C0_SDA, 48 PC7/UART4_TXD, 49 PC6/UART4_RXD, 50 PA7, 51 PA6, 52 VSS, 53 VDD, 54 LDO_CAP, 55 PA5/UART5_TXD, 56 PA4/UART5_RXD, 57 PA3, 58 PA2, 59 PA1, 60 PA0, 61 VDDIO, 62 PE14, 63 PE15, 64 nREST, 65 PF0/ICE_DAT, 66 PF1/ICE_CLK, 67 PD9/EBI_AD7, 68 PD8/EBI_AD6, 69 PC5, 70 PC4, 71 PC3, 72 PC2, 73 PC1/SC1_DAT/RX, 74 PC0/SC1_CLK/TX, 75 VSS, 76 VDD, 77 PG9/EBI_AD0, 78 PG10/EBI_AD1, 79 PG11/EBI_AD2, 80 PG12/EBI_AD3, 81 PG13/EBI_AD4, 82 PG14/EBI_AD5, 83 PG15, 84 PD13, 85 PA12, 86 PA13/USB_D-, 87 PA14/USB_D+, 88 PA15, 89 NC, 90 VDD, 91 NC, 92 NC, 93 VSS, 94 NC, 95 LDO_CAP, 96 NC, 97 PE7, 98 PE6, 99 PE5, 100 PE4, 101 PE3, 102 PE2, 103 VSS, 104 VDD, 105 PE1, 106 PE0, 107 PH8, 108 PH9, 109 PH10, 110 PH11, 111 PD14, 112 VSS, 113 LDO_CAP, 114 VDD, 115 PC14, 116 PB15/EADC0_CH15, 117 PB14/EADC0_CH14, 118 PB13/EADC0_CH13, 119 PB12/EADC0_CH12, 120 AVDD, 121 VREF, 122 AVSS, 123 PB11/EADC0_CH11, 124 PB10/EADC0_CH10, 125 PB9/EADC0_CH9, 126 PB8/EADC0_CH8, 127 PB7/EADC0_CH7, 128 PB6/EADC0_CH6

## M482SIDAE
designator U?
新唐 M482SIDAE
footprint LQFP-64_L7.0-W7.0-P0.40-LS9.2-BL
pins: 1 PB6, 2 PB5/UART5_TX, 3 PB4/UART5_RX, 4 PB3/UART1_TX, 5 PB2/UART1_RX, 6 PB1/EPWM0_CH4, 7 PB0/EPWM0_CH5, 8 PA11, 9 PA10, 10 PA9/SC2_DAT, 11 PA8/SC2_CLK, 12 PF6, 13 VDD, 14 PF5/X32_IN, 15 PF4/X32_OUT, 16 PF3/XT1_IN/UART0_TX, 17 PF2/XT1_OUT/UART0_RX, 18 PC7/UART4_TX, 19 PC6/UART4_RX, 20 PA7, 21 PA6/EPWM1_CH5, 22 VSS, 23 VDD, 24 LDO_CAP, 25 PA5/EPWM0_CH0, 26 PA4/EPWM0_CH1, 27 PA3/EPWM0_CH2, 28 PA2/EPWM0_CH3, 29 PA1/SCO_DAT, 30 PA0/SCO_CLK, 31 VDDIO, 32 ~{RST}, 33 PF0/ICE_DAT, 34 PF1/ICE_CLK, 35 PC5/UART2_TX, 36 PC4/UART2_RX, 37 PC3/UART3_TX, 38 PC2/UART3_RX, 39 PC1/SC1_DAT, 40 PC0/SC1_CLK, 41 PD3, 42 PD2, 43 PD1, 44 PD0, 45 PA12, 46 PA13/USB_D-, 47 PA14/USB_D+, 48 PA15, 49 VSS, 50 LDO_CAP, 51 VDD, 52 PC14, 53 PB15/EPWM1_CH0, 54 PB14/EPWM1_CH1, 55 PB13/EPWM1_CH2, 56 PB12/EPWM1_CH3, 57 AVDD, 58 VREF, 59 AVSS, 60 PB11, 61 PB10, 62 PB9/EADC0_CH9, 63 PB8/EADC0_CH8, 64 PB7/EPWM1_CH4

## MAX3232
designator U?
RS232电平转换（3.3V）
footprint SO-16（1.27/3.8*10）
footprint TSSOP-16（0.65/4.5*5.1）
pins: 1 C1+, 2 V+, 3 C1-, 4 C2+, 5 C2-, 6 V-, 7 T2out, 8 R2in, 9 R2out, 10 T2in, 11 T1in, 12 R1out, 13 R1in, 14 T1out, 15 GND (power), 16 VCC (power)
2 alternate drawings of the same symbol

## MAX3485
designator U?
485总线收发器（3.3V）
footprint SO-8（1.27/3.8*5）
pins: 1 RO, 2 ~{RE}, 3 DE, 4 DI, 5 GND, 6 A, 7 B, 8 VCC

## MB85RC64TA
designator U?
铁电存储器 64Kbit
footprint SO-8（1.27/3.8*5）
pins: 1 A0, 2 A1, 3 A2, 4 VSS, 5 SDA, 6 SCL, 7 WP, 8 VDD

## MCP2551
designator U?
can总线收发器
pins: 1 TXD, 2 VSS, 3 VDD, 4 RXD, 5 Vref, 6 CANL, 7 CANH, 8 Rs

## MCP4017
designator U?
数字电位器
footprint SC-70-6_L2.2-W1.3-P0.65-LS2.1-TL
pins: 1 VDD, 2 VSS, 3 SCL, 4 SDA, 5 B, 6 W

## MFRC522
designator U?
13.56MHZ射频芯片
footprint QFN-32
pins: 1 I2C, 2 PVDD, 3 DVDD, 4 DVSS, 5 PVSS, 6 ~{RST}, 7 MFIN, 8 MFOUT, 9 SVDD, 10 TVSS, 11 TX1, 12 TVDD, 13 TX2, 14 TVSS, 15 AVDD, 16 VMID, 17 RX, 18 AVSS, 19 AUX1, 20 AUX2, 21 OSCIN, 22 OSCOUT, 23 IRQ, 24 SDA/NSS/RX, 25 D1/ADR_5, 26 D2/ADR_4, 27 D3/ADR_3, 28 D4/ADR_2, 29 D5/ADR_1/SCK/DTRQ, 30 D6/ADR_0/M0SI/MX, 31 D7/SCL/MISO/TX, 32 EA, 33 BT_PAD

## MIC29302WU
designator U?
LDO（5V-3.3V/3A）
footprint TO-263-5 (贴片LM2596)
pins: 1 EN, 2 IN, 3 GND, 4 OUT, 5 ADJ, 6 GND

## MicroSwitch
designator SW?
微动开关/常开/常闭/公共点
pins: 1 COM, 2 NO, 3 NC

## MOC3061
designator U?
带过零检测双向可控硅驱动
footprint MOC3061
pins: 1 ANODE, 2 CATHODE, 3 NC, 4 M1, 5 NC, 6 M1

## MOS-N [DUAL ]
designator U?
NMOS
footprint SO-8（1.27/3.8*5）
pins: 1 S1, 2 G1, 3 S2, 4 G2, 5 D2, 6 D2, 7 D1, 8 D1

## MOS-P [DUAL]
designator U?
PMOS
footprint SO-8（1.27/3.8*5）
pins: 1 S1, 2 G1, 3 S2, 4 G2, 5 D2, 6 D2, 7 D1, 8 D1

## MOS-P/N [DUAL ]
designator U?
Complementary MOS
footprint SO-8（1.27/3.8*5）
pins: 1 S1, 2 G1, 3 S2, 4 G2, 5 D2, 6 D2, 7 D1, 8 D1

## MOSFET-N
designator Q?
N-Channel MOSFET; PackageDocument: 1995/1996; Published: 8-Jun-2000; LatestRevisionDate: 17-Jul-2002; LatestRevisionNote: Re-released for DXP Platform.; PackageReference: E3; Publisher: Altium Limited
footprint SOT-23-3
footprint SOT-23-3L
footprint H2PAK-2_L10.0-W10.4-P4.98-LS15.3-BR
pins: 1 G, 2 S, 3 D

## MOSFET_P
designator Q?, comment MOSFET-P
P-Channel MOSFET; PackageDocument: 1995/1996; Published: 8-Jun-2000; LatestRevisionDate: 17-Jul-2002; LatestRevisionNote: Re-released for DXP Platform.; PackageReference: E3; Publisher: Altium Limited
footprint SOT-23-3
footprint SOT-23-3L
footprint TO-252-2
pins: 1 G, 2 S, 3 D

## MOTOR-AC
designator M?
交流电机
pins: 1 VCC, 2 GND
text: M; S

## MOTOR-DC
designator M?
直流电机
pins: 1 VCC, 2 GND
text: M

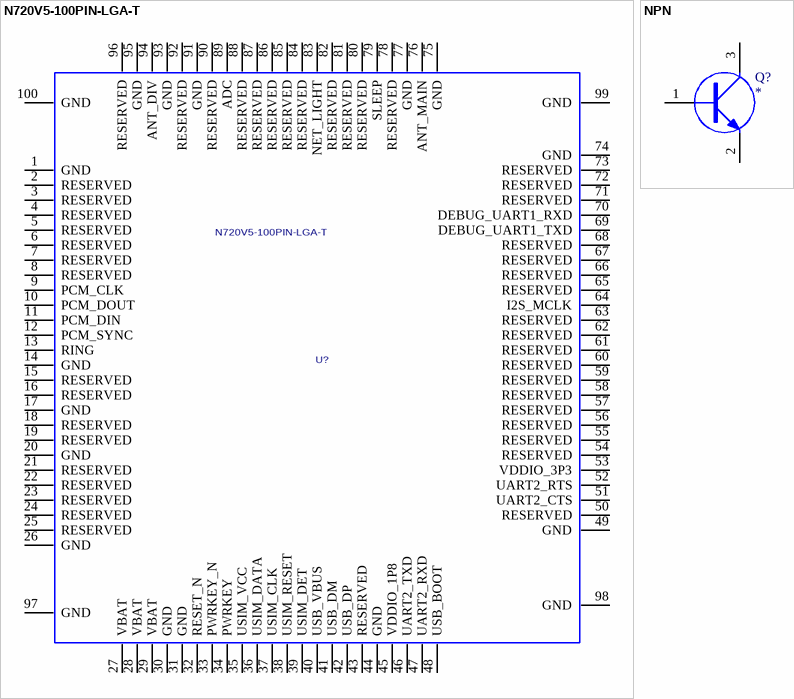
[diagram p5: symbols N720V5-100PIN-LGA-T to NPN]

## N720V5-100PIN-LGA-T
designator U?
PCB DECAL: N720V5-100PIN-LGA-T
footprint N720V5-100PIN-LGA-T
pins: 1 GND, 2 RESERVED, 3 RESERVED, 4 RESERVED, 5 RESERVED, 6 RESERVED, 7 RESERVED, 8 RESERVED, 9 PCM_CLK, 10 PCM_DOUT, 11 PCM_DIN, 12 PCM_SYNC, 13 RING, 14 GND, 15 RESERVED, 16 RESERVED, 17 GND, 18 RESERVED, 19 RESERVED, 20 GND, 21 RESERVED, 22 RESERVED, 23 RESERVED, 24 RESERVED, 25 RESERVED, 26 GND, 27 VBAT, 28 VBAT, 29 VBAT, 30 GND, 31 GND, 32 RESET_N, 33 PWRKEY_N, 34 PWRKEY, 35 USIM_VCC, 36 USIM_DATA, 37 USIM_CLK, 38 USIM_RESET, 39 USIM_DET, 40 USB_VBUS, 41 USB_DM, 42 USB_DP, 43 RESERVED, 44 GND, 45 VDDIO_1P8, 46 UART2_TXD, 47 UART2_RXD, 48 USB_BOOT, 49 GND, 50 RESERVED, 51 UART2_CTS, 52 UART2_RTS, 53 VDDIO_3P3, 54 RESERVED, 55 RESERVED, 56 RESERVED, 57 RESERVED, 58 RESERVED, 59 RESERVED, 60 RESERVED, 61 RESERVED, 62 RESERVED, 63 RESERVED, 64 I2S_MCLK, 65 RESERVED, 66 RESERVED, 67 RESERVED, 68 RESERVED, 69 DEBUG_UART1_TXD, 70 DEBUG_UART1_RXD, 71 RESERVED, 72 RESERVED, 73 RESERVED, 74 GND, 75 GND, 76 ANT_MAIN, 77 GND, 78 RESERVED, 79 SLEEP, 80 RESERVED, 81 RESERVED, 82 RESERVED, 83 NET_LIGHT, 84 RESERVED, 85 RESERVED, 86 RESERVED, 87 RESERVED, 88 RESERVED, 89 ADC, 90 RESERVED, 91 GND, 92 RESERVED, 93 GND, 94 ANT_DIV, 95 GND, 96 RESERVED, 97 GND, 98 GND, 99 GND, 100 GND

## NPN
designator Q?
三极管
footprint SOT-23-3
pins: 1, 2, 3

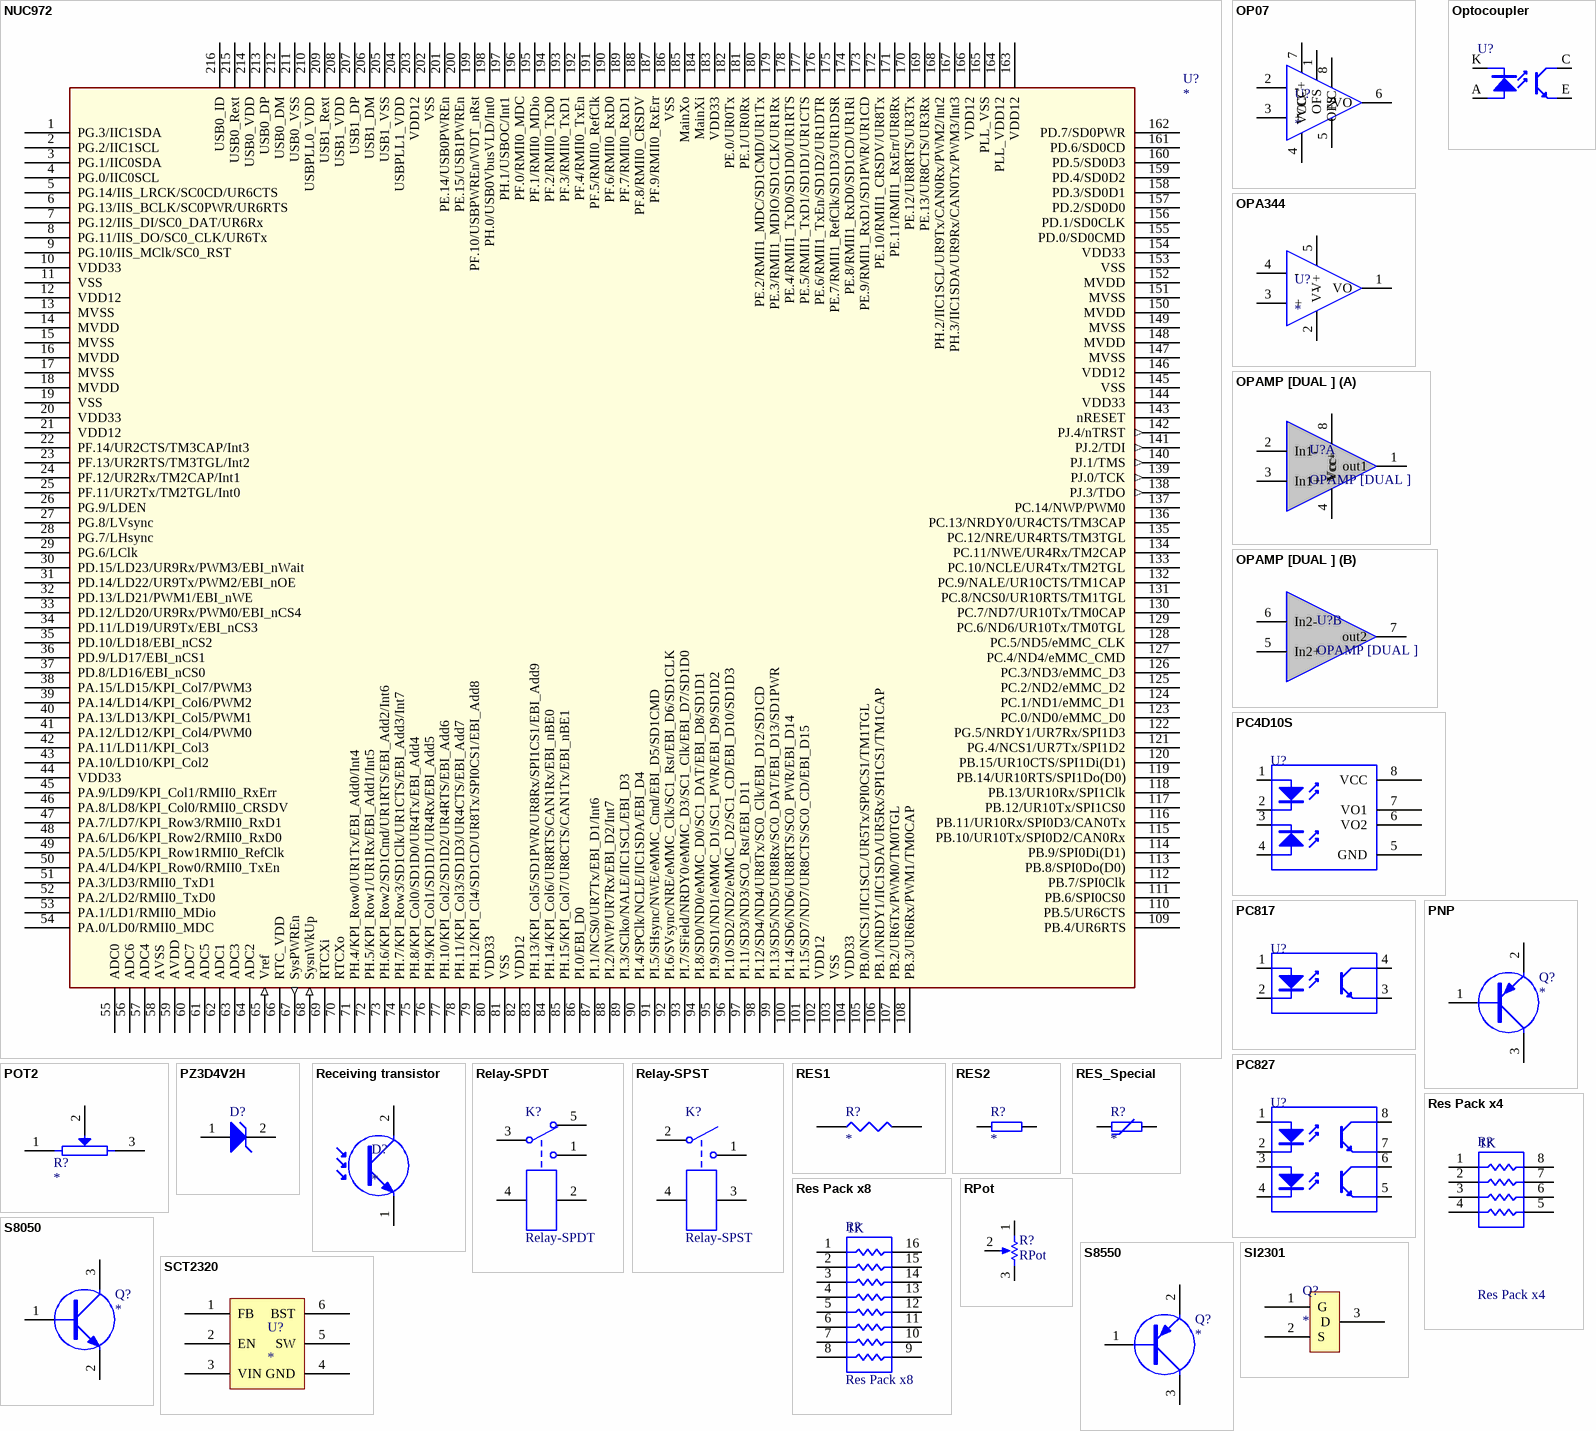
[diagram p6: symbols NUC972 to SI2301]

## NUC972
designator U?
footprint LQFP-216
pins: 1 PG.3/IIC1SDA, 2 PG.2/IIC1SCL, 3 PG.1/IIC0SDA, 4 PG.0/IIC0SCL, 5 PG.14/IIS_LRCK/SC0CD/UR6CTS, 6 PG.13/IIS_BCLK/SC0PWR/UR6RTS, 7 PG.12/IIS_DI/SC0_DAT/UR6Rx, 8 PG.11/IIS_DO/SC0_CLK/UR6Tx, 9 PG.10/IIS_MClk/SC0_RST, 10 VDD33 (power), 11 VSS (power), 12 VDD12 (power), 13 MVSS (power), 14 MVDD (power), 15 MVSS (power), 16 MVDD (power), 17 MVSS (power), 18 MVDD (power), 19 VSS (power), 20 VDD33 (power), 21 VDD12 (power), 22 PF.14/UR2CTS/TM3CAP/Int3, 23 PF.13/UR2RTS/TM3TGL/Int2, 24 PF.12/UR2Rx/TM2CAP/Int1, 25 PF.11/UR2Tx/TM2TGL/Int0, 26 PG.9/LDEN, 27 PG.8/LVsync, 28 PG.7/LHsync, 29 PG.6/LClk, 30 PD.15/LD23/UR9Rx/PWM3/EBI_nWait, 31 PD.14/LD22/UR9Tx/PWM2/EBI_nOE, 32 PD.13/LD21/PWM1/EBI_nWE, 33 PD.12/LD20/UR9Rx/PWM0/EBI_nCS4, 34 PD.11/LD19/UR9Tx/EBI_nCS3, 35 PD.10/LD18/EBI_nCS2, 36 PD.9/LD17/EBI_nCS1, 37 PD.8/LD16/EBI_nCS0, 38 PA.15/LD15/KPI_Col7/PWM3, 39 PA.14/LD14/KPI_Col6/PWM2, 40 PA.13/LD13/KPI_Col5/PWM1, 41 PA.12/LD12/KPI_Col4/PWM0, 42 PA.11/LD11/KPI_Col3, 43 PA.10/LD10/KPI_Col2, 44 VDD33 (power), 45 PA.9/LD9/KPI_Col1/RMII0_RxErr, 46 PA.8/LD8/KPI_Col0/RMII0_CRSDV, 47 PA.7/LD7/KPI_Row3/RMII0_RxD1, 48 PA.6/LD6/KPI_Row2/RMII0_RxD0, 49 PA.5/LD5/KPI_Row1RMII0_RefClk, 50 PA.4/LD4/KPI_Row0/RMII0_TxEn, 51 PA.3/LD3/RMII0_TxD1, 52 PA.2/LD2/RMII0_TxD0, 53 PA.1/LD1/RMII0_MDio, 54 PA.0/LD0/RMII0_MDC, 55 ADC0, 56 ADC6, 57 ADC4, 58 AVSS, 59 AVDD, 60 ADC7, 61 ADC5, 62 ADC1, 63 ADC3, 64 ADC2, 65 Vref (in), 66 RTC_VDD (power), 67 SysPWREn (out), 68 SysnWkUp (in), 69 RTCXi, 70 RTCXo, 71 PH.4/KPI_Row0/UR1Tx/EBI_Add0/Int4, 72 PH.5/KPI_Row1/UR1Rx/EBI_Add1/Int5, 73 PH.6/KPI_Row2/SD1Cmd/UR1RTS/EBI_Add2/Int6, 74 PH.7/KPI_Row3/SD1Clk/UR1CTS/EBI_Add3/Int7, 75 PH.8/KPI_Col0/SD1D0/UR4Tx/EBI_Add4, 76 PH.9/KPI_Col1/SD1D1/UR4Rx/EBI_Add5, 77 PH.10/KPI_Col2/SD1D2/UR4RTS/EBI_Add6, 78 PH.11/KPI_Col3/SD1D3/UR4CTS/EBI_Add7, 79 PH.12/KPI_Cl4/SD1CD/UR8Tx/SPI0CS1/EBI_Add8, 80 VDD33 (power), 81 VSS (power), 82 VDD12 (power), 83 PH.13/KPI_Col5/SD1PWR/UR8Rx/SPI1CS1/EBI_Add9, 84 PH.14/KPI_Col6/UR8RTS/CAN1Rx/EBI_nBE0, 85 PH.15/KPI_Col7/UR8CTS/CAN1Tx/EBI_nBE1, 86 PI.0/EBI_D0, 87 PI.1/NCS0/UR7Tx/EBI_D1/Int6, 88 PI.2/NWP/UR7Rx/EBI_D2/Int7, 89 PI.3/SClko/NALE/IIC1SCL/EBI_D3, 90 PI.4/SPClk/NCLE/IIC1SDA/EBI_D4, 91 PI.5/SHsync/NWE/eMMC_Cmd/EBI_D5/SD1CMD, 92 PI.6/SVsync/NRE/eMMC_Clk/SC1_Rst/EBI_D6/SD1CLK, 93 PI.7/SField/NRDY0/eMMC_D3/SC1_Clk/EBI_D7/SD1D0, 94 PI.8/SD0/ND0/eMMC_D0/SC1_DAT/EBI_D8/SD1D1, 95 PI.9/SD1/ND1/eMMC_D1/SC1_PWR/EBI_D9/SD1D2, 96 PI.10/SD2/ND2/eMMC_D2/SC1_CD/EBI_D10/SD1D3, 97 PI.11/SD3/ND3/SC0_Rst/EBI_D11, 98 PI.12/SD4/ND4/UR8Tx/SC0_Clk/EBI_D12/SD1CD, 99 PI.13/SD5/ND5/UR8Rx/SC0_DAT/EBI_D13/SD1PWR, 100 PI.14/SD6/ND6/UR8RTS/SC0_PWR/EBI_D14, 101 PI.15/SD7/ND7/UR8CTS/SC0_CD/EBI_D15, 102 VDD12 (power), 103 VSS (power), 104 VDD33 (power), 105 PB.0/NCS1/IIC1SCL/UR5Tx/SPI0CS1/TM1TGL, 106 PB.1/NRDY1/IIC1SDA/UR5Rx/SPI1CS1/TM1CAP, 107 PB.2/UR6Tx/PWM0/TM0TGL, 108 PB.3/UR6Rx/PWM1/TM0CAP, 109 PB.4/UR6RTS, 110 PB.5/UR6CTS, 111 PB.6/SPI0CS0, 112 PB.7/SPI0Clk, 113 PB.8/SPI0Do(D0), 114 PB.9/SPI0Di(D1), 115 PB.10/UR10Tx/SPI0D2/CAN0Rx, 116 PB.11/UR10Rx/SPI0D3/CAN0Tx, 117 PB.12/UR10Tx/SPI1CS0, 118 PB.13/UR10Rx/SPI1Clk, 119 PB.14/UR10RTS/SPI1Do(D0), 120 PB.15/UR10CTS/SPI1Di(D1), 121 PG.4/NCS1/UR7Tx/SPI1D2, 122 PG.5/NRDY1/UR7Rx/SPI1D3, 123 PC.0/ND0/eMMC_D0, 124 PC.1/ND1/eMMC_D1, 125 PC.2/ND2/eMMC_D2, 126 PC.3/ND3/eMMC_D3, 127 PC.4/ND4/eMMC_CMD, 128 PC.5/ND5/eMMC_CLK, 129 PC.6/ND6/UR10Tx/TM0TGL, 130 PC.7/ND7/UR10Tx/TM0CAP, 131 PC.8/NCS0/UR10RTS/TM1TGL, 132 PC.9/NALE/UR10CTS/TM1CAP, 133 PC.10/NCLE/UR4Tx/TM2TGL, 134 PC.11/NWE/UR4Rx/TM2CAP, 135 PC.12/NRE/UR4RTS/TM3TGL, 136 PC.13/NRDY0/UR4CTS/TM3CAP, 137 PC.14/NWP/PWM0, 138 PJ.3/TDO (out), 139 PJ.0/TCK (out), 140 PJ.1/TMS (out), 141 PJ.2/TDI (out), 142 PJ.4/nTRST (out), 143 nRESET, 144 VDD33 (power), 145 VSS (power), 146 VDD12 (power), 147 MVSS (power), 148 MVDD (power), 149 MVSS (power), 150 MVDD (power), 151 MVSS (power), 152 MVDD (power), 153 VSS (power), 154 VDD33 (power), 155 PD.0/SD0CMD, 156 PD.1/SD0CLK, 157 PD.2/SD0D0, 158 PD.3/SD0D1, 159 PD.4/SD0D2, 160 PD.5/SD0D3, 161 PD.6/SD0CD, 162 PD.7/SD0PWR, 163 VDD12 (power), 164 PLL_VDD12 (power), 165 PLL_VSS (power), 166 VDD12 (power), 167 PH.3/IIC1SDA/UR9Rx/CAN0Tx/PWM3/Int3, 168 PH.2/IIC1SCL/UR9Tx/CAN0Rx/PWM2/Int2, 169 PE.13/UR8CTS/UR3Rx, 170 PE.12/UR8RTS/UR3Tx, 171 PE.11/RMII1_RxErr/UR8Rx, 172 PE.10/RMII1_CRSDV/UR8Tx, 173 PE.9/RMII1_RxD1/SD1PWR/UR1CD, 174 PE.8/RMII1_RxD0/SD1CD/UR1Ri, 175 PE.7/RMII1_RefClk/SD1D3/UR1DSR, 176 PE.6/RMII1_TxEn/SD1D2/UR1DTR, 177 PE.5/RMII1_TxD1/SD1D1/UR1CTS, 178 PE.4/RMII1_TxD0/SD1D0/UR1RTS, 179 PE.3/RMII1_MDIO/SD1CLK/UR1Rx, 180 PE.2/RMII1_MDC/SD1CMD/UR1Tx, 181 PE.1/UR0Rx, 182 PE.0/UR0Tx, 183 VDD33 (power), 184 MainXi, 185 MainXo, 186 VSS (power), 187 PF.9/RMII0_RxErr, 188 PF.8/RMII0_CRSDV, 189 PF.7/RMII0_RxD1, 190 PF.6/RMII0_RxD0, 191 PF.5/RMII0_RefClk, 192 PF.4/RMII0_TxEn, 193 PF.3/RMII0_TxD1, 194 PF.2/RMII0_TxD0, 195 PF.1/RMII0_MDio, 196 PF.0/RMII0_MDC, 197 PH.1/USBOC/Int1, 198 PH.0/USB0VbusVLD/Int0, 199 PF.10/USBPWREn/WDT_nRst, 200 PE.15/USB1PWREn, 201 PE.14/USB0PWREn, 202 VSS (power), 203 VDD12 (power), 204 USBPLL1_VDD (power), 205 USB1_VSS (power), 206 USB1_DM, 207 USB1_DP, 208 USB1_VDD (power), 209 USB1_Rext, 210 USBPLL0_VDD (power), 211 USB0_VSS, 212 USB0_DM, 213 USB0_DP, 214 USB0_VDD (power), 215 USB0_Rext, 216 USB0_ID

## OP07
designator U?
运放/双电源
footprint SO-8（1.27/3.8*5）
pins: 1 OFS, 2 -, 3 +, 4 VCC-, 5 NC, 6 VO, 7 VCC+, 8 OFS

## OPA344
designator U?
运放/低失调/单电源
footprint SOT-23-5
pins: 1 VO, 2 V-, 3 +, 4 -, 5 V+

## OPAMP [DUAL ]
designator U?
双运放
footprint SO-8（1.27/3.8*5）
part A pins: 1 out1, 2 In1-, 3 In1+, 4 Vcc-, 8 Vcc+
part B pins: 5 In2+, 6 In2-, 7 out2

## Optocoupler
designator U?
光耦; Published: 24-Mar-1999; LatestRevisionDate: 04-Mar-2005; LatestRevisionNote: Sch pins 3 & 4 Swapped.; DatasheetVersion: Nov-2003; PackageReference: DIP-4; Publisher: Altium Limited
pins: A 2 "Cathode", C 4 "Collector", E 3 "Emitter", K 1 "Anode"

## PC4D10S
designator U?
双路10M光耦(替换6N137); Published: 24-Mar-1999; LatestRevisionDate: 04-Mar-2005; LatestRevisionNote: Sch pins 3 & 4 Swapped.; DatasheetVersion: Nov-2003; PackageReference: DIP-4; Publisher: Altium Limited
footprint SO-8（1.27/3.8*5）
pins: 1 "Anode", 2 K "Cathode", 3 A "Anode", 4 "Cathode", 5 GND, 6 VO2, 7 VO1, 8 VCC

## PC817
designator U?
4引脚线性光耦; Published: 24-Mar-1999; LatestRevisionDate: 04-Mar-2005; LatestRevisionNote: Sch pins 3 & 4 Swapped.; DatasheetVersion: Nov-2003; PackageReference: DIP-4; Publisher: Altium Limited
footprint SOP(2.54)-4 (光耦-2.54)
footprint SOP(1.27)-4 (光耦-1.27)
pins: 1 A "Anode", 2 K "Cathode", 3 E "Emitter", 4 C "Collector"

## PC827
designator U?
8引脚线性光耦（2组PC817）; Published: 24-Mar-1999; LatestRevisionDate: 04-Mar-2005; LatestRevisionNote: Sch pins 3 & 4 Swapped.; DatasheetVersion: Nov-2003; PackageReference: DIP-4; Publisher: Altium Limited
footprint SOP(2.54)-8
pins: 1 A "Anode", 2 K "Cathode", 3 A "Anode", 4 K "Cathode", 5 E "Emitter", 6 C "Collector", 7 E "Emitter", 8 C "Collector"

## PNP
designator Q?
三极管
footprint SOT-23-3
pins: 1, 2, 3

## POT2
designator R?
可调电位器
footprint BK-xxxK (单联电位器)
footprint WH06-1-203 (立式侧脚电位器)
footprint 3296X (侧调式电位器)
footprint 3362P (电位器)
pins: 1, 2 W, 3

## PZ3D4V2H
designator D?
稳压二极管; Published: 8-Jun-2000; LatestRevisionDate: 17-Jul-2002; LatestRevisionNote: Re-released for DXP Platform.; PackageReference: DIODE-0.7; Publisher: Altium Limited
footprint SOD323（0805） (0805大小的二极管封装)
pins: 1, 2 K

## Receiving transistor
designator D?
光电三极管/接收端
footprint LED(圆形)-2.54-3mm (直插LED或红外接收管)
footprint LED(圆形)-2.54-5mm (直插LED或红外接收管)
pins: 1, 2

## Relay-SPDT
designator K?
继电器 1组转换(单刀双掷); Published: 24-Mar-1999; LatestRevisionDate: 17-Jul-2002; LatestRevisionNote: Re-released for DXP Platform.; PackageReference: MODULE5B; Publisher: Altium Limited
footprint HFD23 (继电器)
pins: 1, 2 5, 3 1, 4, 5 2

## Relay-SPST
designator K?
继电器 1组常开(单刀单掷); Published: 24-Mar-1999; LatestRevisionDate: 17-Jul-2002; LatestRevisionNote: Re-released for DXP Platform.; PackageReference: MODULE5B; Publisher: Altium Limited
footprint HF152FD-1H (宏发功率继电器20A,1组常开)
pins: 1, 2 1, 3 5, 4

## RES1
designator R?
电阻
footprint 0805_R (电阻)
footprint 压敏电阻
footprint 2512_R
footprint 0603_R (电阻)
footprint RES-2W-BD5.0-L15.5-P19.50-D0.8
footprint RES-3W_BD5.5-L15.0-P19.00-D0.8
footprint RES-5W_BD6.5-L17.5-P21.50-D0.6
pins: 1, 2

## RES2
designator R?
电阻
footprint 0805_R (电阻)
footprint 1206_R (电阻)
footprint 2010_R
footprint 1812_R
footprint 0603_R (电阻)
footprint 2512_R
footprint 0402_R
footprint AXAIL-0.9-2W (直插电阻)
footprint AXAIL-0.6-1W (直插电阻)
footprint AXAIL-0.5-1/2W (直插电阻)
footprint AXAIL-0.4-1/4W (直插电阻)
footprint AXAIL-0.3-1/8W (直插电阻)
pins: 1, 2

## Res Pack x4
designator R?  value 1K
排阻; Published: 24-Mar-1999; LatestRevisionDate: 29-May-2009; LatestRevisionNote: IPC-7351 Footprint Added.; PackageReference: SO-16; Publisher: Altium Limited; PackageDescription: 16-Pin Small Outline Integrated Circuit 1.27 mm Pitch; Code_JEDEC: MS-012-AC; Code_IPC: SOIC127P600-16
footprint 0603_Rx4 (Footprint not found)
footprint 0402_Rx4
pins: 1, 2, 3, 4, 5, 6, 7, 8

## Res Pack x8
designator R?  value 1K
排阻; Published: 24-Mar-1999; LatestRevisionDate: 29-May-2009; LatestRevisionNote: IPC-7351 Footprint Added.; PackageReference: SO-16; Publisher: Altium Limited; PackageDescription: 16-Pin Small Outline Integrated Circuit 1.27 mm Pitch; Code_JEDEC: MS-012-AC; Code_IPC: SOIC127P600-16
pins: 1, 2, 3, 4, 5, 6, 7, 8, 9, 10, 11, 12, 13, 14, 15, 16

## RES_Special
designator R?
特殊作用电阻
footprint 14D471K (压敏电阻)
footprint 10D-11 (NTC热敏电阻)
pins: 1, 2

## RPot
designator R?
可调电位器; Sim Note: Enter the Resistance value and the set point into parameter fields.; Set Position: 0.5; Published: 8-Jun-2000; LatestRevisionDate: 17-Jul-2002; LatestRevisionNote: Re-released for DXP Platform.; PackageReference: VR5; Publisher: Altium Limited; PackageDescription: Variable Resistor, Thru-Hole; 3 Leads
footprint BK-xxxK (单联电位器)
footprint WH06-1-203 (立式电位器)
footprint 3296X (侧调式电位器)
pins: 1 TOP, 2 TAP, 3 BOT

## S8050
designator Q?
NPN
footprint SOT-23-3
pins: 1, 2, 3

## S8550
designator Q?
PNP
footprint SOT-23-3
pins: 1, 2, 3

## SCT2320
designator U?
DC-DC buck
footprint SOT-23-6
pins: 1 FB, 2 EN, 3 VIN, 4 GND, 5 SW, 6 BST

## SI2301
designator Q?
PMOS; Vgs: -2.5v
footprint SOT-23-3
pins: 1 G, 2 S, 3 D

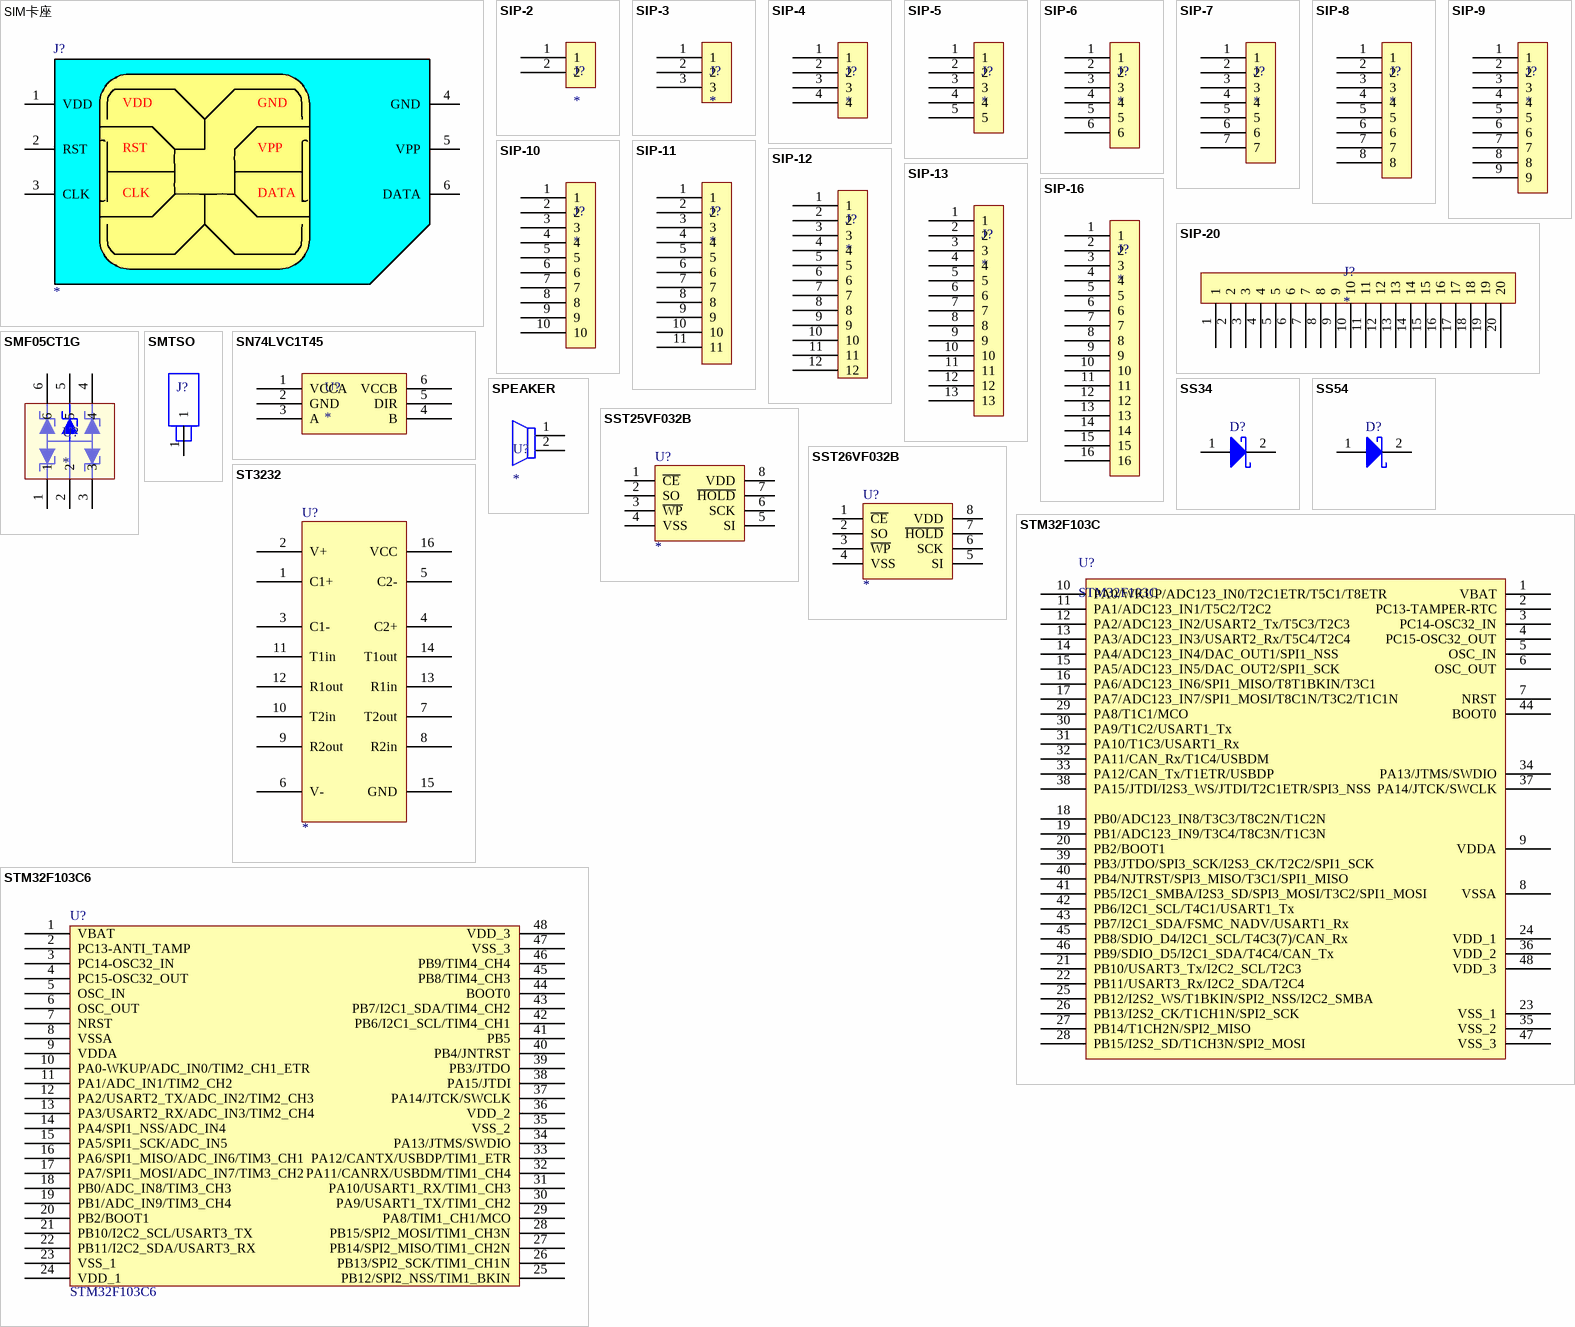
[diagram p7: symbols SIM卡座 to STM32F103C6]

## SIM卡座
designator J?
无保护引脚SIM卡座
footprint SIM卡座-翻盖式
footprint SIM卡座-抽屉式
footprint SIM卡座-MICRO自弹式6P
footprint SIM卡座-Micro翻盖式 (Micro SIM Card, Flip)
footprint SIM卡座_NANO抽拉式
footprint SIM卡座-NANO掀盖式
footprint SIM卡座-nano自弹式
pins: 1 VDD, 2 RST, 3 CLK, 4 GND, 5 VPP, 6 DATA
2 alternate drawings of the same symbol

## SIP-2
designator J?
单排2P插座
footprint 排母-1*2P/2.0mm (镀金)
footprint 排针-1*2P/2.0mm (镀金)
footprint XHB-2A (直针-引脚间距2.54mm)
footprint XHB-2AW (弯针-引脚间距2.54mm)
footprint PHS-2AW (弯针-引脚间距2.0mm)
footprint PHS-2A (直针-引脚间距2.0mm)
footprint CH3.96-2A (直针-引脚间距3.96mm)
footprint CH3.96-2AW (弯针-引脚间距3.96mm)
footprint VH3.96-2A (直针-引脚间距3.96)
footprint CH5.08-2A (直针-间距5.08)
footprint VH3.96-2AW (弯针-引脚间距3.96)
footprint HB9500-2 (接线端子-引脚间距9.5mm)
footprint HB7620-2P (接线端子-引脚间距7.62mm)
footprint 2547-2AW (弯针-引脚间距2.54mm)
footprint 2547-2A (直针-引脚间距2.54mm)
footprint KF128-2P (2.54MM 直插接线端子)
footprint KF2EDGV-3.81-2P
footprint HB611-6.35-2P
pins: 1, 2

## SIP-3
designator J?
单排3P插座
footprint XHB-3A (直针-引脚间距2.54mm)
footprint PHS-3A (直针-引脚间距2.0mm)
footprint 排母-1*3P/2.0mm (镀金)
footprint 排针-1*3P/2.0mm (镀金)
footprint HB7620-3P (接线端子-引脚间距7.62mm)
footprint XHB-3AW (弯针-引脚间距2.54mm)
footprint PHS-3Aw (弯针-引脚间距2.0mm)
footprint MX3.0mm-43640-3AW
footprint HB611-6.35-3P
footprint KF2EDGV-3.81-3P
pins: 1, 2, 3

## SIP-4
designator J?
单排4P插座
footprint VH3.96-4AW (弯针-引脚间距3.96)
footprint XHB-4A (直针-引脚间距2.54mm)
footprint PHS-4A (直针-引脚间距2.0mm)
footprint HB9500-4 (接线端子-引脚间距9.5mm)
footprint HB7620-4P (接线端子-引脚间距7.62mm)
footprint CH3.96-4A (直针-引脚间距3.96mm)
footprint CH5.08-4A (直针-间距5.08)
footprint XHB-4AW (弯针-引脚间距2.54mm)
footprint PHS-4AW (弯针-引脚间距2.0mm)
footprint VH3.96-4A (直针-引脚间距3.96)
footprint KF2EDGV-3.81-4P
footprint MX3.0mm-43640-4AW
pins: 1, 2, 3, 4

## SIP-5
designator J?
单排5P插座
footprint XHB-5A (直针-引脚间距2.54mm)
footprint PHS-5A (直针-引脚间距2.0mm)
footprint XHB-5AW (弯针-引脚间距2.54mm)
footprint PHS-5AW (弯针-引脚间距2.0mm)
pins: 1, 2, 3, 4, 5

## SIP-6
designator J?
单排6P插座
footprint VH3.96-6A (直针-引脚间距3.96)
footprint XHB-6A (直针-引脚间距2.54mm)
footprint HB9500-6 (接线端子-引脚间距9.5mm)
footprint CH3.96-6A (直针-引脚间距3.96mm)
footprint PHS-6A (直针-引脚间距2.0mm)
footprint KF128-6P (2.54MM 直插接线端子)
footprint XHB-6AW (弯针-引脚间距2.54mm)
footprint PHS-6AW (弯针-引脚间距2.0mm)
footprint VH3.96-6AW (弯针-引脚间距3.96)
footprint CH3.96-6AW (弯针-引脚间距3.96mm)
pins: 1, 2, 3, 4, 5, 6

## SIP-7
designator J?
单排7P插座
footprint XHB-7AW (弯针-引脚间距2.54mm)
footprint XHB-7A (直针-引脚间距2.54mm)
footprint PHS-7AW (弯针-引脚间距2.0mm)
pins: 1, 2, 3, 4, 5, 6, 7

## SIP-8
designator J?
单排8P插座
footprint XHB-8A (直针-引脚间距2.54mm)
footprint PHS-8A (直针-引脚间距2.0mm)
footprint XHB-8AW (弯针-引脚间距2.54mm)
footprint PHS-8AW (弯针-引脚间距2.0mm)
footprint CH3.96-8A (直针-引脚间距3.96mm)
footprint CH3.96-8AW (弯针-引脚间距3.96mm)
footprint VH3.96-8A (直针-引脚间距3.96)
footprint VH3.96-8AW (弯针-引脚间距3.96)
pins: 1, 2, 3, 4, 5, 6, 7, 8

## SIP-9
designator J?
单排9P插座
footprint XHB-9AW (弯针-引脚间距2.54mm)
footprint XHB-9A (直针-引脚间距2.54mm)
footprint PHS-9AW (弯针-引脚间距2.0mm)
pins: 1, 2, 3, 4, 5, 6, 7, 8, 9

## SIP-10
designator J?
单排10P插座
footprint XHB-10A (直针-引脚间距2.54mm)
footprint PHS-10A (直针-引脚间距2.0mm)
footprint XHB-10AW (弯针-引脚间距2.54mm)
footprint PHS-10AW (弯针-引脚间距2.0mm)
pins: 1, 2, 3, 4, 5, 6, 7, 8, 9, 10

## SIP-11
designator J?
单排11P插座
footprint XHB-11A (直针-引脚间距2.54mm)
pins: 1, 2, 3, 4, 5, 6, 7, 8, 9, 10, 11

## SIP-12
designator J?
单排12P插座
footprint XHB-12A (直针-引脚间距2.54mm)
pins: 1, 2, 3, 4, 5, 6, 7, 8, 9, 10, 11, 12

## SIP-13
designator J?
单排13P插座
footprint XHB-13A (直针-引脚间距2.54mm)
pins: 1, 2, 3, 4, 5, 6, 7, 8, 9, 10, 11, 12, 13

## SIP-16
designator J?
单排16P插座
footprint XHB-16A (直针-引脚间距2.54mm)
pins: 1, 2, 3, 4, 5, 6, 7, 8, 9, 10, 11, 12, 13, 14, 15, 16

## SIP-20
designator J?
单排20P插座
footprint XHB-20A (直针-引脚间距2.54mm)
pins: 1, 2, 3, 4, 5, 6, 7, 8, 9, 10, 11, 12, 13, 14, 15, 16, 17, 18, 19, 20

## SMF05CT1G
designator U?
TVS管（5只集成）
footprint LC-SC-70-6(SOT-363)
pins: 1, 2, 3, 4, 5, 6

## SMTSO
designator J?
贴片螺母
footprint BLT01-002 (贴片螺母)
footprint SMTSO-M2 (贴片螺母)
pins: 1

## SN74LVC1T45
designator U?
3.3V-5V双向转换
footprint SOT-23-6 (Max4173)
pins: 1 VCCA, 2 GND, 3 A , 4 B, 5 DIR, 6 VCCB

## SPEAKER
designator U?
扬声器
footprint SPEAKER-2207 (喇叭/扬声器22*7MM)
pins: 1, 2

## SS34
designator D?
肖特基二极管; Published: 8-Jun-2000; LatestRevisionDate: 17-Jul-2002; LatestRevisionNote: Re-released for DXP Platform.; PackageReference: DIODE-0.7; Publisher: Altium Limited
footprint SMA/DO214AC (二极管)
pins: 1, 2 K

## SS54
designator D?
肖特基二极管; Published: 8-Jun-2000; LatestRevisionDate: 17-Jul-2002; LatestRevisionNote: Re-released for DXP Platform.; PackageReference: DIODE-0.7; Publisher: Altium Limited
footprint SMA/DO214AC (二极管)
pins: 1, 2 K

## SST25VF032B
designator U?
串口FLASH-3.3V
footprint SO-8（1.27/5.3*5）
pins: 1 ~{CE}, 2 SO, 3 ~{WP}, 4 VSS, 5 SI, 6 SCK, 7 ~{HOLD}, 8 VDD

## SST26VF032B
designator U?
串口FLASH-3.3V
footprint SO-8（1.27/5.3*5）
pins: 1 ~{CE}, 2 SO, 3 ~{WP}, 4 VSS, 5 SI, 6 SCK, 7 ~{HOLD}, 8 VDD

## ST3232
designator U?
RS232电平转换
footprint SO-16（1.27/3.8*10）
footprint TSSOP-16（0.65/4.5*5.1）
pins: 1 C1+, 2 V+, 3 C1-, 4 C2+, 5 C2-, 6 V-, 7 T2out, 8 R2in, 9 R2out, 10 T2in, 11 T1in, 12 R1out, 13 R1in, 14 T1out, 15 GND (power), 16 VCC (power)
2 alternate drawings of the same symbol

## STM32F103C
designator U?
STM32-48引脚
footprint LQFP-48A (DPIN-0.5)
footprint LQFP-48B (Thin QFP, 48-Leads, Body 7x7mm, Pitch 0.5mm, IPC Medium Density)
pins: 1 VBAT, 2 PC13-TAMPER-RTC, 3 PC14-OSC32_IN, 4 PC15-OSC32_OUT, 5 OSC_IN, 6 OSC_OUT, 7 NRST, 8 VSSA, 9 VDDA, 10 PA0/WKUP/ADC123_IN0/T2C1ETR/T5C1/T8ETR, 11 PA1/ADC123_IN1/T5C2/T2C2, 12 PA2/ADC123_IN2/USART2_Tx/T5C3/T2C3, 13 PA3/ADC123_IN3/USART2_Rx/T5C4/T2C4, 14 PA4/ADC123_IN4/DAC_OUT1/SPI1_NSS, 15 PA5/ADC123_IN5/DAC_OUT2/SPI1_SCK, 16 PA6/ADC123_IN6/SPI1_MISO/T8T1BKIN/T3C1, 17 PA7/ADC123_IN7/SPI1_MOSI/T8C1N/T3C2/T1C1N, 18 PB0/ADC123_IN8/T3C3/T8C2N/T1C2N, 19 PB1/ADC123_IN9/T3C4/T8C3N/T1C3N, 20 PB2/BOOT1, 21 PB10/USART3_Tx/I2C2_SCL/T2C3, 22 PB11/USART3_Rx/I2C2_SDA/T2C4, 23 VSS_1, 24 VDD_1, 25 PB12/I2S2_WS/T1BKIN/SPI2_NSS/I2C2_SMBA, 26 PB13/I2S2_CK/T1CH1N/SPI2_SCK, 27 PB14/T1CH2N/SPI2_MISO, 28 PB15/I2S2_SD/T1CH3N/SPI2_MOSI, 29 PA8/T1C1/MCO, 30 PA9/T1C2/USART1_Tx, 31 PA10/T1C3/USART1_Rx, 32 PA11/CAN_Rx/T1C4/USBDM, 33 PA12/CAN_Tx/T1ETR/USBDP, 34 PA13/JTMS/SWDIO, 35 VSS_2, 36 VDD_2, 37 PA14/JTCK/SWCLK, 38 PA15/JTDI/I2S3_WS/JTDI/T2C1ETR/SPI3_NSS, 39 PB3/JTDO/SPI3_SCK/I2S3_CK/T2C2/SPI1_SCK, 40 PB4/NJTRST/SPI3_MISO/T3C1/SPI1_MISO, 41 PB5/I2C1_SMBA/I2S3_SD/SPI3_MOSI/T3C2/SPI1_MOSI, 42 PB6/I2C1_SCL/T4C1/USART1_Tx, 43 PB7/I2C1_SDA/FSMC_NADV/USART1_Rx, 44 BOOT0, 45 PB8/SDIO_D4/I2C1_SCL/T4C3(7)/CAN_Rx, 46 PB9/SDIO_D5/I2C1_SDA/T4C4/CAN_Tx, 47 VSS_3, 48 VDD_3

## STM32F103C6
designator U?
STM32-48引脚
footprint LQFP-48B (Thin QFP, 48-Leads, Body 7x7mm, Pitch 0.5mm, IPC Medium Density)
footprint LQFP-48A (DPIN-0.5)
pins: 1 VBAT, 2 PC13-ANTI_TAMP, 3 PC14-OSC32_IN, 4 PC15-OSC32_OUT, 5 OSC_IN, 6 OSC_OUT, 7 NRST, 8 VSSA, 9 VDDA, 10 PA0-WKUP/ADC_IN0/TIM2_CH1_ETR, 11 PA1/ADC_IN1/TIM2_CH2, 12 PA2/USART2_TX/ADC_IN2/TIM2_CH3, 13 PA3/USART2_RX/ADC_IN3/TIM2_CH4, 14 PA4/SPI1_NSS/ADC_IN4, 15 PA5/SPI1_SCK/ADC_IN5, 16 PA6/SPI1_MISO/ADC_IN6/TIM3_CH1, 17 PA7/SPI1_MOSI/ADC_IN7/TIM3_CH2, 18 PB0/ADC_IN8/TIM3_CH3, 19 PB1/ADC_IN9/TIM3_CH4, 20 PB2/BOOT1, 21 PB10/I2C2_SCL/USART3_TX, 22 PB11/I2C2_SDA/USART3_RX, 23 VSS_1, 24 VDD_1, 25 PB12/SPI2_NSS/TIM1_BKIN, 26 PB13/SPI2_SCK/TIM1_CH1N, 27 PB14/SPI2_MISO/TIM1_CH2N, 28 PB15/SPI2_MOSI/TIM1_CH3N, 29 PA8/TIM1_CH1/MCO, 30 PA9/USART1_TX/TIM1_CH2, 31 PA10/USART1_RX/TIM1_CH3, 32 PA11/CANRX/USBDM/TIM1_CH4, 33 PA12/CANTX/USBDP/TIM1_ETR, 34 PA13/JTMS/SWDIO, 35 VSS_2, 36 VDD_2, 37 PA14/JTCK/SWCLK, 38 PA15/JTDI, 39 PB3/JTDO, 40 PB4/JNTRST, 41 PB5, 42 PB6/I2C1_SCL/TIM4_CH1, 43 PB7/I2C1_SDA/TIM4_CH2, 44 BOOT0, 45 PB8/TIM4_CH3, 46 PB9/TIM4_CH4, 47 VSS_3, 48 VDD_3
1 alternate drawing of the same symbol

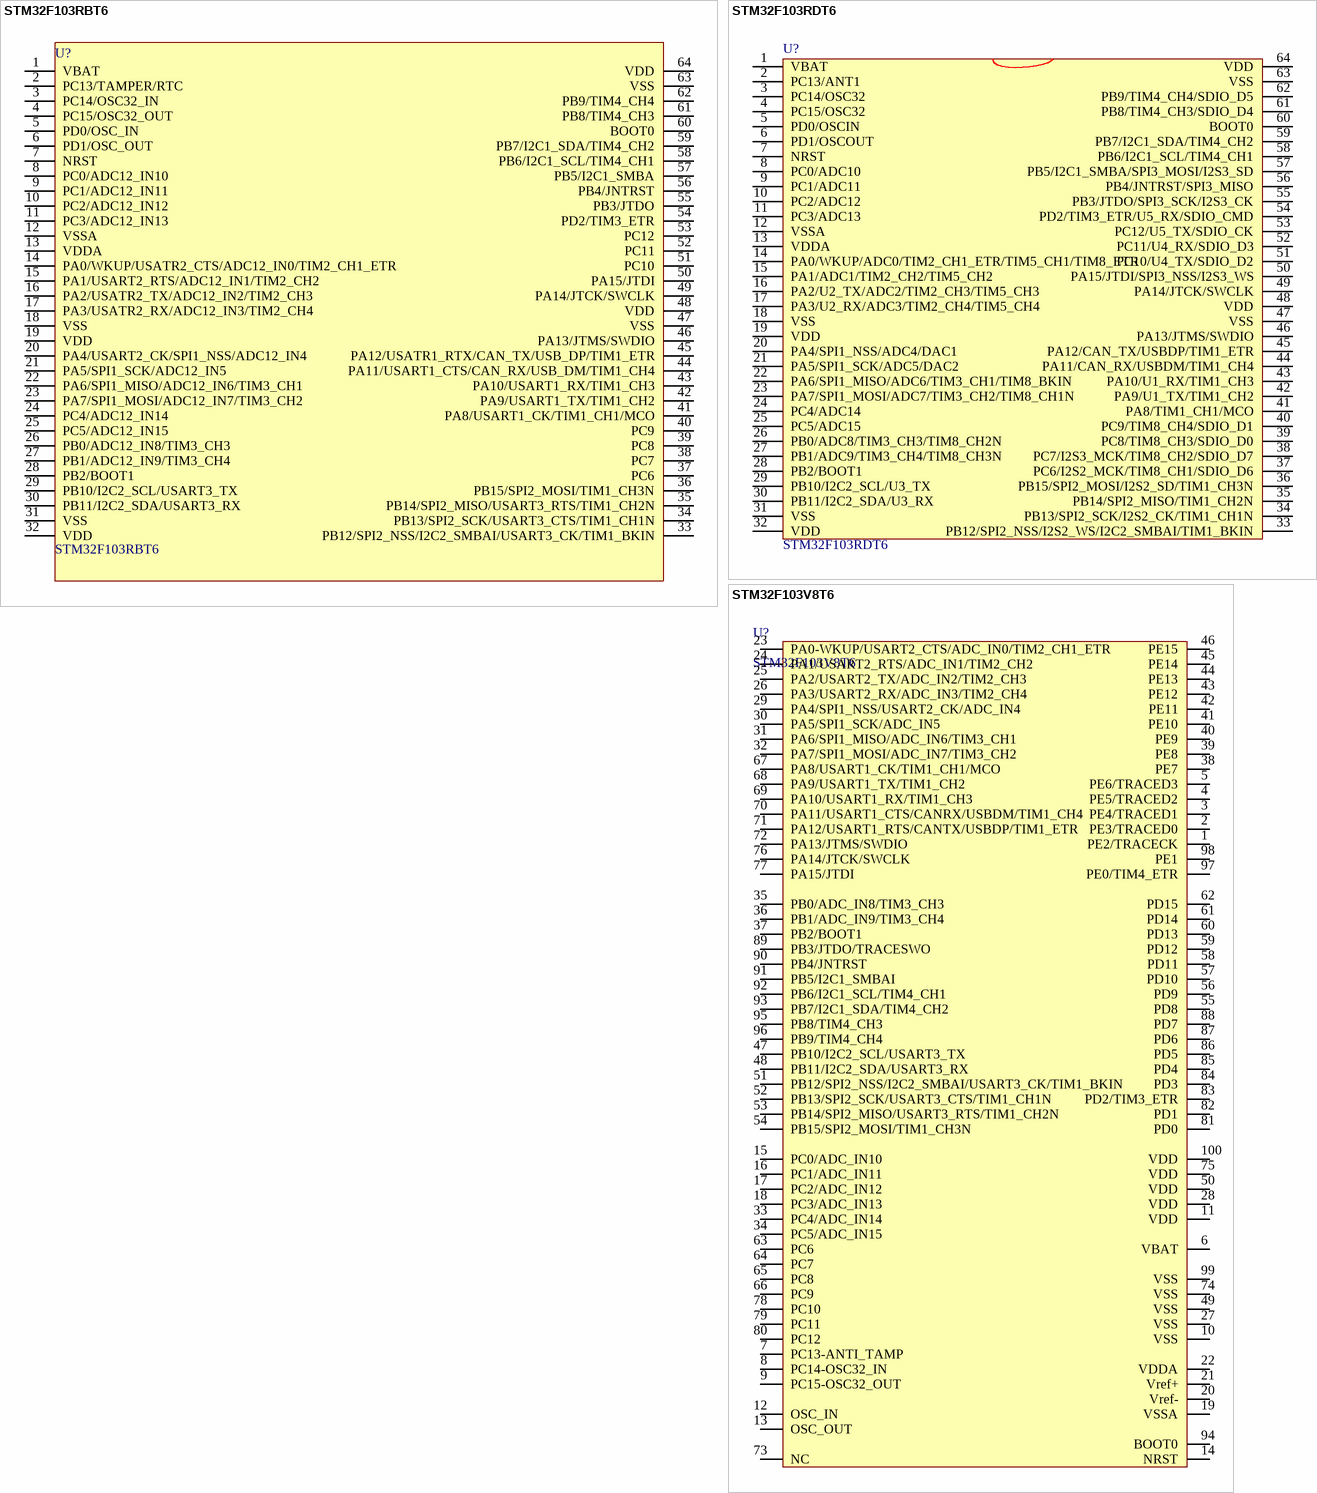
[diagram p8: symbols STM32F103RBT6 to STM32F103V8T6]

## STM32F103RBT6
designator U?
STM32-64引脚
footprint LQFP-64 (LQFP64)
pins: 1 VBAT, 2 PC13/TAMPER/RTC, 3 PC14/OSC32_IN, 4 PC15/OSC32_OUT, 5 PD0/OSC_IN, 6 PD1/OSC_OUT, 7 NRST, 8 PC0/ADC12_IN10 , 9 PC1/ADC12_IN11, 10 PC2/ADC12_IN12, 11 PC3/ADC12_IN13, 12 VSSA, 13 VDDA, 14 PA0/WKUP/USATR2_CTS/ADC12_IN0/TIM2_CH1_ETR, 15 PA1/USART2_RTS/ADC12_IN1/TIM2_CH2, 16 PA2/USATR2_TX/ADC12_IN2/TIM2_CH3, 17 PA3/USATR2_RX/ADC12_IN3/TIM2_CH4, 18 VSS, 19 VDD, 20 PA4/USART2_CK/SPI1_NSS/ADC12_IN4, 21 PA5/SPI1_SCK/ADC12_IN5, 22 PA6/SPI1_MISO/ADC12_IN6/TIM3_CH1, 23 PA7/SPI1_MOSI/ADC12_IN7/TIM3_CH2, 24 PC4/ADC12_IN14, 25 PC5/ADC12_IN15, 26 PB0/ADC12_IN8/TIM3_CH3, 27 PB1/ADC12_IN9/TIM3_CH4, 28 PB2/BOOT1, 29 PB10/I2C2_SCL/USART3_TX, 30 PB11/I2C2_SDA/USART3_RX, 31 VSS, 32 VDD, 33 PB12/SPI2_NSS/I2C2_SMBAI/USART3_CK/TIM1_BKIN, 34 PB13/SPI2_SCK/USART3_CTS/TIM1_CH1N, 35 PB14/SPI2_MISO/USART3_RTS/TIM1_CH2N, 36 PB15/SPI2_MOSI/TIM1_CH3N, 37 PC6, 38 PC7, 39 PC8, 40 PC9, 41 PA8/USART1_CK/TIM1_CH1/MCO, 42 PA9/USART1_TX/TIM1_CH2, 43 PA10/USART1_RX/TIM1_CH3, 44 PA11/USART1_CTS/CAN_RX/USB_DM/TIM1_CH4, 45 PA12/USATR1_RTX/CAN_TX/USB_DP/TIM1_ETR, 46 PA13/JTMS/SWDIO, 47 VSS, 48 VDD, 49 PA14/JTCK/SWCLK, 50 PA15/JTDI, 51 PC10, 52 PC11, 53 PC12, 54 PD2/TIM3_ETR, 55 PB3/JTDO, 56 PB4/JNTRST, 57 PB5/I2C1_SMBA, 58 PB6/I2C1_SCL/TIM4_CH1, 59 PB7/I2C1_SDA/TIM4_CH2, 60 BOOT0, 61 PB8/TIM4_CH3, 62 PB9/TIM4_CH4, 63 VSS, 64 VDD

## STM32F103RDT6
designator U?
STM32-64引脚
footprint LQFP-64 (LQFP64)
pins: 1 VBAT, 2 PC13/ANT1, 3 PC14/OSC32, 4 PC15/OSC32, 5 PD0/OSCIN, 6 PD1/OSCOUT, 7 NRST, 8 PC0/ADC10, 9 PC1/ADC11, 10 PC2/ADC12, 11 PC3/ADC13, 12 VSSA, 13 VDDA, 14 PA0/WKUP/ADC0/TIM2_CH1_ETR/TIM5_CH1/TIM8_ETR, 15 PA1/ADC1/TIM2_CH2/TIM5_CH2, 16 PA2/U2_TX/ADC2/TIM2_CH3/TIM5_CH3, 17 PA3/U2_RX/ADC3/TIM2_CH4/TIM5_CH4, 18 VSS, 19 VDD, 20 PA4/SPI1_NSS/ADC4/DAC1, 21 PA5/SPI1_SCK/ADC5/DAC2, 22 PA6/SPI1_MISO/ADC6/TIM3_CH1/TIM8_BKIN, 23 PA7/SPI1_MOSI/ADC7/TIM3_CH2/TIM8_CH1N, 24 PC4/ADC14, 25 PC5/ADC15, 26 PB0/ADC8/TIM3_CH3/TIM8_CH2N, 27 PB1/ADC9/TIM3_CH4/TIM8_CH3N, 28 PB2/BOOT1, 29 PB10/I2C2_SCL/U3_TX, 30 PB11/I2C2_SDA/U3_RX, 31 VSS, 32 VDD, 33 PB12/SPI2_NSS/I2S2_WS/I2C2_SMBAI/TIM1_BKIN, 34 PB13/SPI2_SCK/I2S2_CK/TIM1_CH1N, 35 PB14/SPI2_MISO/TIM1_CH2N, 36 PB15/SPI2_MOSI/I2S2_SD/TIM1_CH3N, 37 PC6/I2S2_MCK/TIM8_CH1/SDIO_D6, 38 PC7/I2S3_MCK/TIM8_CH2/SDIO_D7, 39 PC8/TIM8_CH3/SDIO_D0, 40 PC9/TIM8_CH4/SDIO_D1, 41 PA8/TIM1_CH1/MCO, 42 PA9/U1_TX/TIM1_CH2, 43 PA10/U1_RX/TIM1_CH3, 44 PA11/CAN_RX/USBDM/TIM1_CH4, 45 PA12/CAN_TX/USBDP/TIM1_ETR, 46 PA13/JTMS/SWDIO, 47 VSS, 48 VDD, 49 PA14/JTCK/SWCLK, 50 PA15/JTDI/SPI3_NSS/I2S3_WS, 51 PC10/U4_TX/SDIO_D2, 52 PC11/U4_RX/SDIO_D3, 53 PC12/U5_TX/SDIO_CK, 54 PD2/TIM3_ETR/U5_RX/SDIO_CMD, 55 PB3/JTDO/SPI3_SCK/I2S3_CK, 56 PB4/JNTRST/SPI3_MISO, 57 PB5/I2C1_SMBA/SPI3_MOSI/I2S3_SD, 58 PB6/I2C1_SCL/TIM4_CH1, 59 PB7/I2C1_SDA/TIM4_CH2, 60 BOOT0, 61 PB8/TIM4_CH3/SDIO_D4, 62 PB9/TIM4_CH4/SDIO_D5, 63 VSS, 64 VDD

## STM32F103V8T6
designator U?
STM32-100引脚
footprint LQFP-100A
footprint LQFP-100B (TSQFP, 100-Leads, Body 16.0x16.0mm (max), Pitch 0.50mm, IPC Medium Density)
pins: 1 PE2/TRACECK, 2 PE3/TRACED0, 3 PE4/TRACED1, 4 PE5/TRACED2, 5 PE6/TRACED3, 6 VBAT, 7 PC13-ANTI_TAMP, 8 PC14-OSC32_IN, 9 PC15-OSC32_OUT, 10 VSS, 11 VDD, 12 OSC_IN, 13 OSC_OUT, 14 NRST, 15 PC0/ADC_IN10, 16 PC1/ADC_IN11, 17 PC2/ADC_IN12, 18 PC3/ADC_IN13, 19 VSSA, 20 Vref-, 21 Vref+, 22 VDDA, 23 PA0-WKUP/USART2_CTS/ADC_IN0/TIM2_CH1_ETR, 24 PA1/USART2_RTS/ADC_IN1/TIM2_CH2, 25 PA2/USART2_TX/ADC_IN2/TIM2_CH3, 26 PA3/USART2_RX/ADC_IN3/TIM2_CH4, 27 VSS, 28 VDD, 29 PA4/SPI1_NSS/USART2_CK/ADC_IN4, 30 PA5/SPI1_SCK/ADC_IN5, 31 PA6/SPI1_MISO/ADC_IN6/TIM3_CH1, 32 PA7/SPI1_MOSI/ADC_IN7/TIM3_CH2, 33 PC4/ADC_IN14, 34 PC5/ADC_IN15, 35 PB0/ADC_IN8/TIM3_CH3, 36 PB1/ADC_IN9/TIM3_CH4, 37 PB2/BOOT1, 38 PE7, 39 PE8, 40 PE9, 41 PE10, 42 PE11, 43 PE12, 44 PE13, 45 PE14, 46 PE15, 47 PB10/I2C2_SCL/USART3_TX, 48 PB11/I2C2_SDA/USART3_RX, 49 VSS, 50 VDD, 51 PB12/SPI2_NSS/I2C2_SMBAI/USART3_CK/TIM1_BKIN, 52 PB13/SPI2_SCK/USART3_CTS/TIM1_CH1N, 53 PB14/SPI2_MISO/USART3_RTS/TIM1_CH2N, 54 PB15/SPI2_MOSI/TIM1_CH3N, 55 PD8, 56 PD9, 57 PD10, 58 PD11, 59 PD12, 60 PD13, 61 PD14, 62 PD15, 63 PC6, 64 PC7, 65 PC8, 66 PC9, 67 PA8/USART1_CK/TIM1_CH1/MCO, 68 PA9/USART1_TX/TIM1_CH2, 69 PA10/USART1_RX/TIM1_CH3, 70 PA11/USART1_CTS/CANRX/USBDM/TIM1_CH4, 71 PA12/USART1_RTS/CANTX/USBDP/TIM1_ETR, 72 PA13/JTMS/SWDIO, 73 NC, 74 VSS, 75 VDD, 76 PA14/JTCK/SWCLK, 77 PA15/JTDI, 78 PC10, 79 PC11, 80 PC12, 81 PD0, 82 PD1, 83 PD2/TIM3_ETR, 84 PD3, 85 PD4, 86 PD5, 87 PD6, 88 PD7, 89 PB3/JTDO/TRACESWO, 90 PB4/JNTRST, 91 PB5/I2C1_SMBAI, 92 PB6/I2C1_SCL/TIM4_CH1, 93 PB7/I2C1_SDA/TIM4_CH2, 94 BOOT0, 95 PB8/TIM4_CH3, 96 PB9/TIM4_CH4, 97 PE0/TIM4_ETR, 98 PE1, 99 VSS, 100 VDD

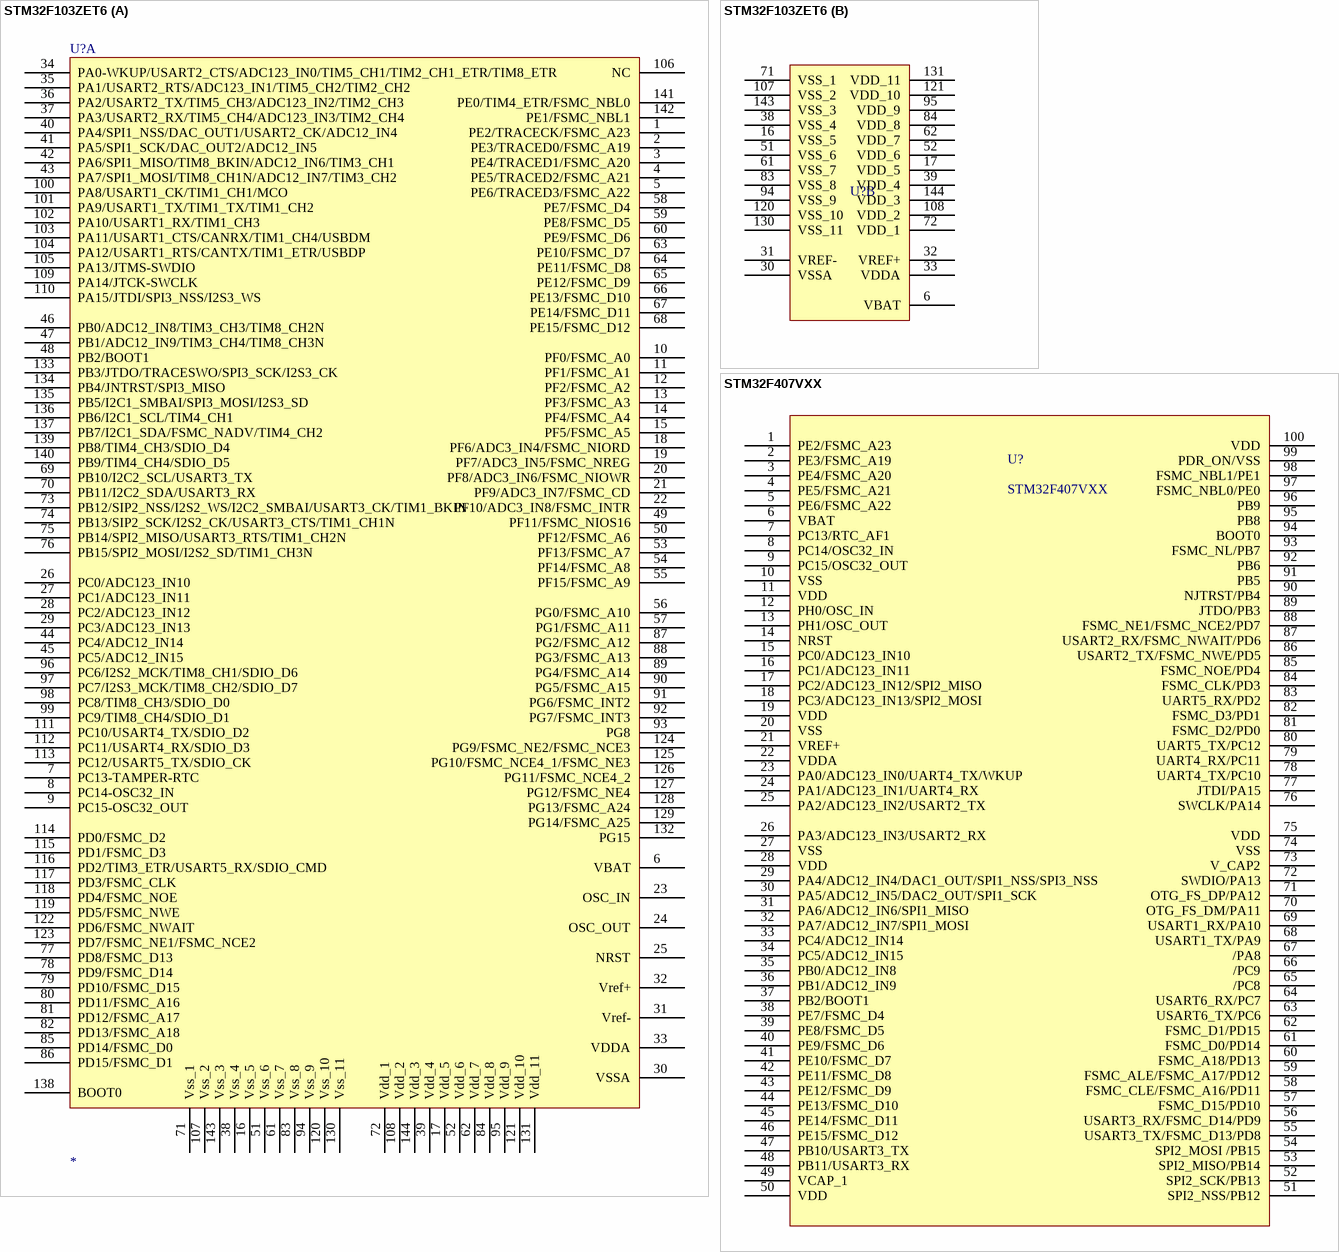
[diagram p9: symbols STM32F103ZET6 to STM32F407VXX]